# Altium schematic symbol library XSS_IC.SchLib: 440 symbols (part 3 of 4)
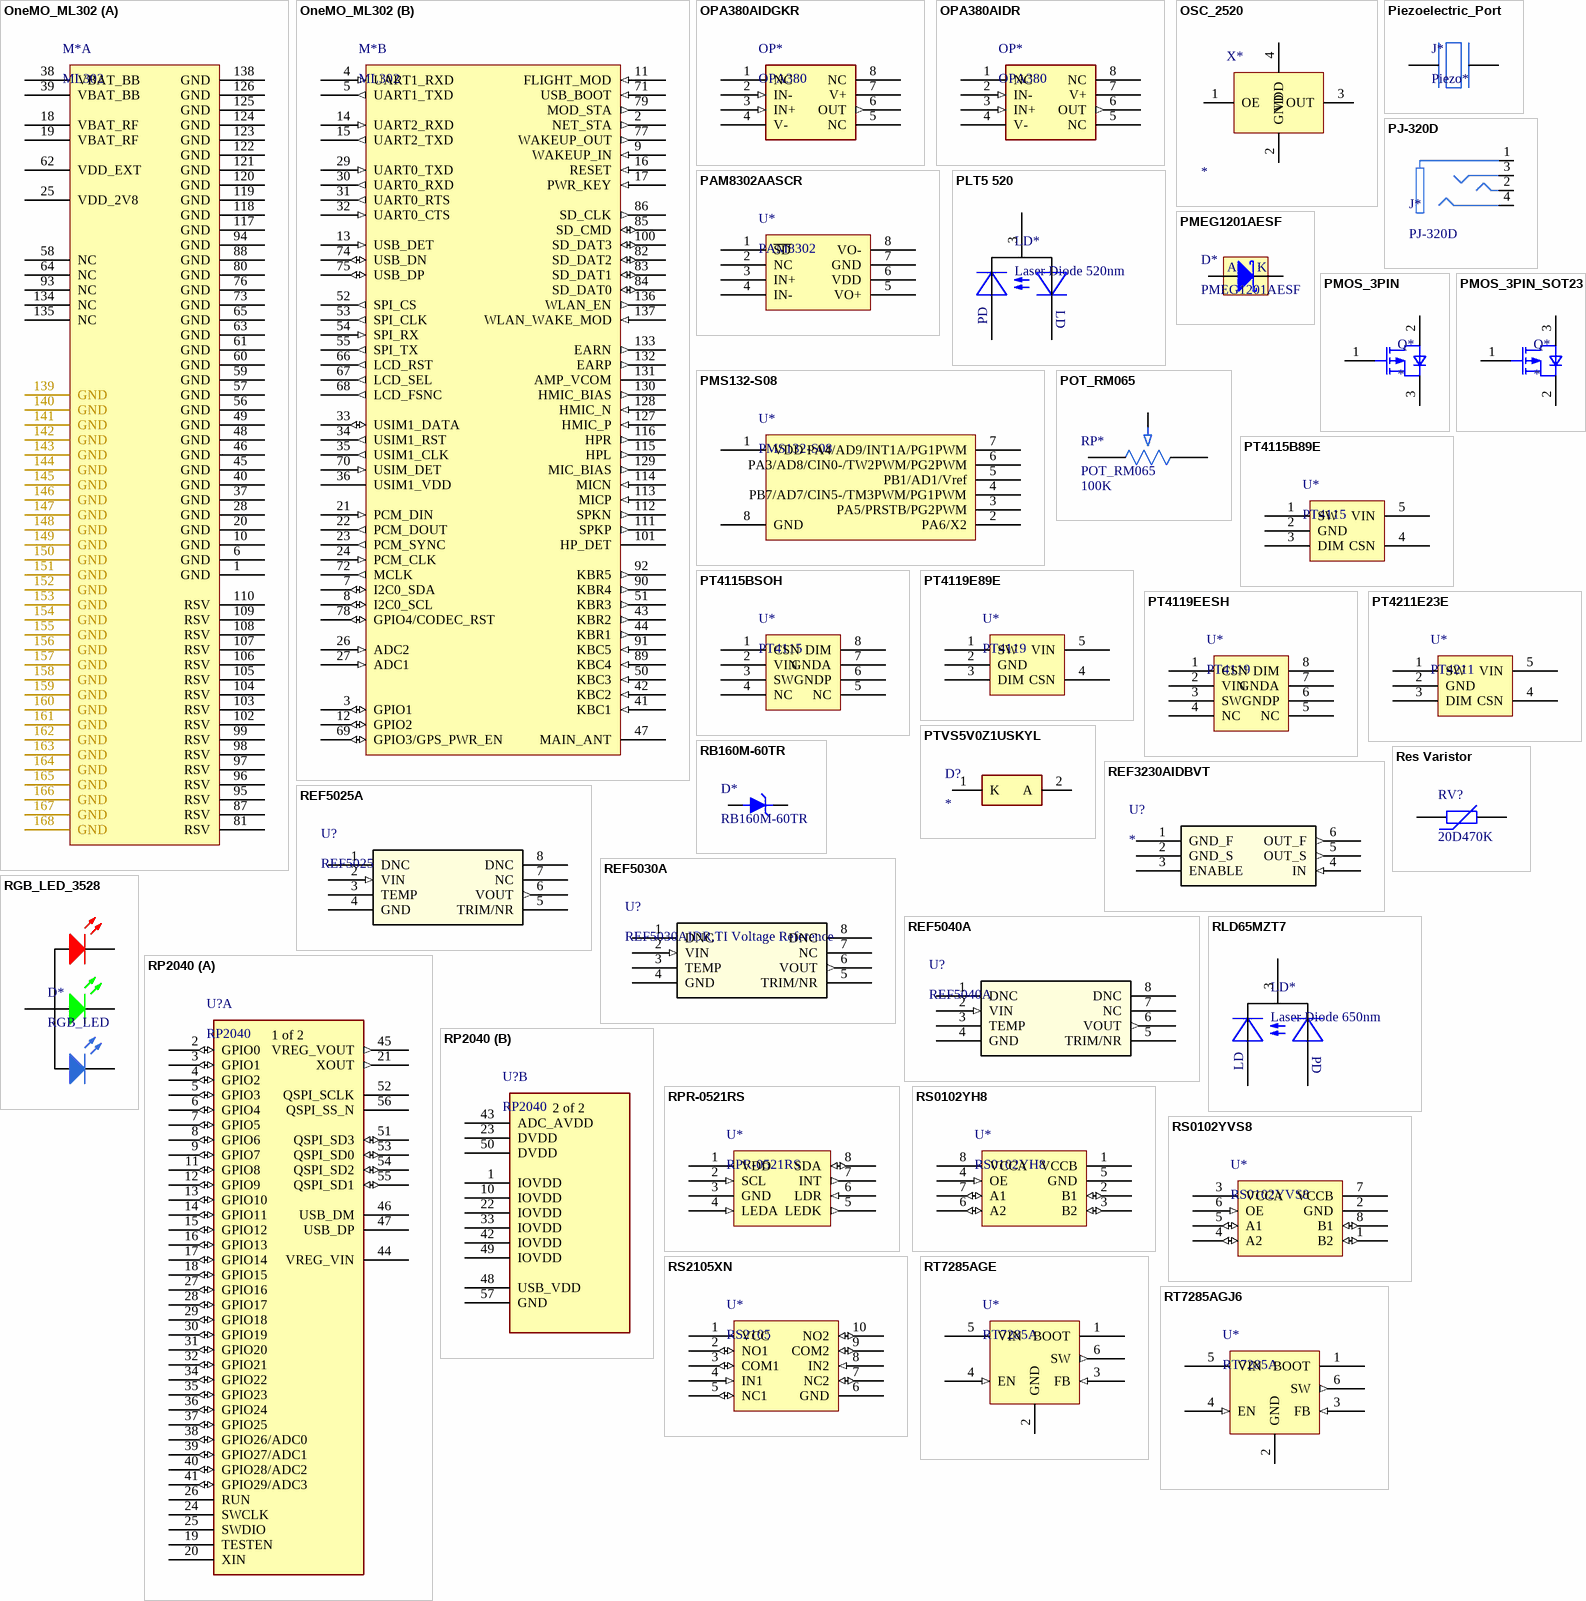
[diagram p15: symbols OneMO_ML302 to RT7285AGJ6]

## OneMO_ML302
designator M*, comment ML302
OneMo in China Mobile, ML302, LTE cat.1 model, LCC+LGA, 32.0x29.0x2.6,- 40℃ ~ 85℃
part A pins: 1 GND (power), 6 GND (power), 10 GND (power), 18 VBAT_RF (power), 19 VBAT_RF (power), 20 GND (power), 25 VDD_2V8 (power), 28 GND (power), 37 GND (power), 38 VBAT_BB (power), 39 VBAT_BB (power), 40 GND (power), 45 GND (power), 46 GND (power), 48 GND (power), 49 GND (power), 56 GND (power), 57 GND (power), 58 NC, 59 GND (power), 60 GND (power), 61 GND (power), 62 VDD_EXT (power), 63 GND (power), 64 NC, 65 GND (power), 73 GND (power), 76 GND (power), 80 GND (power), 81 RSV, 87 RSV, 88 GND (power), 93 NC, 94 GND (power), 95 RSV, 96 RSV, 97 RSV, 98 RSV, 99 RSV, 102 RSV, 103 RSV, 104 RSV, 105 RSV, 106 RSV, 107 RSV, 108 RSV, 109 RSV, 110 RSV, 117 GND (power), 118 GND (power), 119 GND (power), 120 GND (power), 121 GND (power), 122 GND (power), 123 GND (power), 124 GND (power), 125 GND (power), 126 GND (power), 134 NC, 135 NC, 138 GND (power), 139 GND (power), 140 GND (power), 141 GND (power), 142 GND (power), 143 GND (power), 144 GND (power), 145 GND (power), 146 GND (power), 147 GND (power), 148 GND (power), 149 GND (power), 150 GND (power), 151 GND (power), 152 GND (power), 153 GND (power), 154 GND (power), 155 GND (power), 156 GND (power), 157 GND (power), 158 GND (power), 159 GND (power), 160 GND (power), 161 GND (power), 162 GND (power), 163 GND (power), 164 GND (power), 165 GND (power), 166 GND (power), 167 GND (power), 168 GND (power)
part B pins: 2 NET_STA (out), 3 GPIO1 (io), 4 UART1_RXD (in), 5 UART1_TXD (out), 7 I2C0_SDA (io), 8 I2C0_SCL (io), 9 WAKEUP_IN (in), 11 FLIGHT_MOD (in), 12 GPIO2 (io), 13 USB_DET (in), 14 UART2_RXD (in), 15 UART2_TXD (out), 16 RESET (in), 17 PWR_KEY (in), 21 PCM_DIN (in), 22 PCM_DOUT (out), 23 PCM_SYNC (out), 24 PCM_CLK (in), 26 ADC2 (in), 27 ADC1 (in), 29 UART0_TXD (in), 30 UART0_RXD (out), 31 UART0_RTS (out), 32 UART0_CTS (in), 33 USIM1_DATA (io), 34 USIM1_RST (out), 35 USIM1_CLK (out), 36 USIM1_VDD (power), 41 KBC1 (in), 42 KBC2 (in), 43 KBR2 (out), 44 KBR1 (out), 47 MAIN_ANT, 50 KBC3 (in), 51 KBR3 (out), 52 SPI_CS (out), 53 SPI_CLK (out), 54 SPI_RX (in), 55 SPI_TX (out), 66 LCD_RST (out), 67 LCD_SEL (out), 68 LCD_FSNC (out), 69 GPIO3/GPS_PWR_EN (io), 70 USIM_DET (in), 71 USB_BOOT (in), 72 MCLK (out), 74 USB_DN (io), 75 USB_DP (io), 77 WAKEUP_OUT (out), 78 GPIO4/CODEC_RST (io), 79 MOD_STA (out), 82 SD_DAT2 (io), 83 SD_DAT1 (io), 84 SD_DAT0 (io), 85 SD_CMD (io), 86 SD_CLK (out), 89 KBC4 (in), 90 KBR4 (out), 91 KBC5 (in), 92 KBR5 (out), 100 SD_DAT3 (io), 101 HP_DET, 111 SPKP (out), 112 SPKN (out), 113 MICP (in), 114 MICN (in), 115 HPL (out), 116 HPR (out), 127 HMIC_P (in), 128 HMIC_N (in), 129 MIC_BIAS (out), 130 HMIC_BIAS (out), 131 AMP_VCOM (power), 132 EARP (out), 133 EARN (out), 136 WLAN_EN (out), 137 WLAN_WAKE_MOD (in)

## OPA380AIDGKR
designator OP*, comment OPA380
TI, OPA380, Precision, High-Speed Transimpedance Amplifier.BIAS CURRENT: 50pA (max). OFFSET VOLTAGE: 25µV (max). SUPPLY RANGE: 2.7V to 5.5V. VSSOP-8(DGK)
footprint DGK0008A (TI DGK(S-PDSO-G8) package with 5mmx3mm size. Known as VSSOP-8)
pins: 1 NC, 2 IN- (in), 3 IN+ (in), 4 V- (power), 5 NC, 6 OUT (out), 7 V+ (power), 8 NC

## OPA380AIDR
designator OP*, comment OPA380
TI, OPA380, Precision, High-Speed Transimpedance Amplifier.BIAS CURRENT: 50pA (max). OFFSET VOLTAGE: 25µV (max). SUPPLY RANGE: 2.7V to 5.5V. SOIC-8(D)
footprint D0008A (TI D0008A(R-PDSO-G8) package with 6mmx3.85mm size, known as soic-8)
pins: 1 NC, 2 IN- (in), 3 IN+ (in), 4 V- (power), 5 NC, 6 OUT (out), 7 V+ (power), 8 NC

## OSC_2520
designator X*, comment osillator  (value not drawn)
OSC, 2520 package; value: *
footprint OSC-2520
pins: 1 OE, 2 GND, 3 OUT, 4 VDD

## PAM8302AASCR
designator U*, comment PAM8302
PAM8302AASCR, MSOP-8, 2.5W FILTERLESS CLASS-D MONO AUDIO AMPLIFIER
footprint msop-8 (MSOP-8, 5.1mmx3.1mmx1.1mm)
pins: 1 ~{SD}, 2 NC, 3 IN+, 4 IN-, 5 VO+, 6 VDD, 7 GND, 8 VO-

## Piezoelectric_Port
designator J*, comment Piezo*
Port for Piezoelectric Device
footprint Piezo_Port (A Port for Piezoelectric Device)
pins: 1 +, 2 -

## PJ-320D
designator J*
韩国韩荣,音频接插件，3.5mm耳机接插件，PJ-320D; ComponentLink1Description: Website; ComponentLink1URL: http://www.smtswitch.com/cp/9/400.html
footprint PJ-320D (smtswitch, 3.5mm Audio Jack, SMT)
pins: 1 GND, 2 Left, 3 Right, 4 MIC

## PLT5 520
designator LD*, comment Laser Diode 520nm
OSRAM Green Laser Diode in TO56 Package,
footprint TO-56-OSRAM (OSRAM Footprint for Laser Diode with φ5.6 CAN)
pins: 1 LD, 2 PD, 3 Case

## PMEG1201AESF
designator D*
nexperia schottky:PMEG2010AEB,12V, 0.1A low VF(250mV) MEGA Schottky barrier rectifier
footprint SOD962-2
pins: A, K

## PMOS_3PIN
designator Q*
PMOS template with a 3 pin package: like DPAK(TO-252) or D2PAK(TO-263)
footprint D2PAK
footprint D2PAK-L
footprint D2PAK-M
footprint DPAK
footprint DPAK-L
footprint DPAK-M
pins: 1 G, 2 D, 3 S

## PMOS_3PIN_SOT23
designator Q*
PMOS template with a 3 pin package: SOT-23
footprint SOT23-MOS (For si2301/2302 or AO3400/3401.)
pins: 1 G, 2 S, 3 D

## PMS132-S08
designator U*
pins: 1 VDD, 2 PA6/X2, 3 PA5/PRSTB/PG2PWM, 4 PB7/AD7/CIN5-/TM3PWM/PG1PWM, 5 PB1/AD1/Vref, 6 PA3/AD8/CIN0-/TW2PWM/PG2PWM, 7 PA4/AD9/INT1A/PG1PWM, 8 GND

## POT_RM065
designator RP*  value 100K
trim potentiometer with RM065 model
footprint POT_RM065 (trim potentiometer with RM065 model)
footprint POT_RM065_101 (trim potentiometer with RM065 model, 101)
footprint POT_RM065_102 (trim potentiometer with RM065 model, 102)
footprint POT_RM065_103 (trim potentiometer with RM065 model, 103)
footprint POT_RM065_104 (trim potentiometer with RM065 model, 104)
footprint POT_RM065_105 (trim potentiometer with RM065 model, 105)
footprint POT_RM065_201 (trim potentiometer with RM065 model, 201)
footprint POT_RM065_202 (trim potentiometer with RM065 model, 202)
footprint POT_RM065_203 (trim potentiometer with RM065 model, 203)
footprint POT_RM065_204 (trim potentiometer with RM065 model, 204)
footprint POT_RM065_205 (trim potentiometer with RM065 model, 205)
footprint POT_RM065_501 (trim potentiometer with RM065 model, 501)
footprint POT_RM065_502 (trim potentiometer with RM065 model, 502)
footprint POT_RM065_503 (trim potentiometer with RM065 model, 503)
footprint POT_RM065_504 (trim potentiometer with RM065 model, 504)
footprint POT_RM065_505 (trim potentiometer with RM065 model, 505)
pins: 1, 2, 3

## PT4115B89E
designator U*, comment PT4115
30V, 1.2A Step-down High Brightness / LED Driver with 5000:1 Dimming
footprint SOT89-5 (Equel with SOT-89-5)
pins: 1 SW, 2 GND, 3 DIM, 4 CSN, 5 VIN

## PT4115BSOH
designator U*, comment PT4115
30V, 1.2A Step-down High Brightness / LED Driver with 5000:1 Dimming
footprint ESOP8 (TOSHIBA SEMI PSOP8 Package)
pins: 1 CSN, 2 VIN, 3 SW, 4 NC, 5 NC, 6 GNDP, 7 GNDA, 8 DIM

## PT4119E89E
designator U*, comment PT4119
crmicro(PowTech) 30V, 800mA Step-down HB LED Driver
footprint SOT89-5 (Equel with SOT-89-5)
pins: 1 SW, 2 GND, 3 DIM, 4 CSN, 5 VIN

## PT4119EESH
designator U*, comment PT4119
30V, 800mA Step-down High Brightness / LED Driver with 5000:1 Dimming
footprint ESOP8 (TOSHIBA SEMI PSOP8 Package)
pins: 1 CSN, 2 VIN, 3 SW, 4 NC, 5 NC, 6 GNDP, 7 GNDA, 8 DIM

## PT4211E23E
designator U*, comment PT4211
crmicro(PowTech) 30V 350mA Step-down HB LED Driver; ComponentLink1Description: Product Webpage; ComponentLink1URL: https://www.crmicro.com/ProductSolution/psglic/ledic/ledqdic_zlqdcplb/
footprint SOT23-5
pins: 1 SW, 2 GND, 3 DIM, 4 CSN, 5 VIN

## PTVS5V0Z1USKYL
designator D?
TVS Diode (Uni-directional); Manufacturer_Name: Nexperia; Manufacturer_Part_Number: PTVS5V0Z1USKYL; Datasheet Link: https://assets.nexperia.com/documents/data-sheet/PTVS5V0Z1USK.pdf; Height: 0.31mm; Mouser1 Part Number: 771-PTVS5V0Z1USKYL; Mouser1 Price/Stock: https://www.mouser.com/Search/Refine.aspx?Keyword=771-PTVS5V0Z1USKYL
footprint PTVS5V0Z1USKYL
pins: 1 K, 2 A

## RB160M-60TR
designator D*
Rohm, Schottky Diode, RB160M-60TR,60V,  550mV, 1A, SOD-123FL
footprint SOD-123FL (ONSEMI diode)
pins: A, K

## REF3230AIDBVT
designator U?
REF3230AIDBVT,TI very high precision voltage references; Vendor: Texas Instruments; Built_By: EMA_UL_Team; C: Copyright (C) 2015 Accelerated Designs. All rights reserved; Manufacturer_Part_Number: REF3230AIDBVT; RefDes: RefDes; Type: DEV; Value: Value
footprint SOT23-DBV6 (TI SOT-23-6,DBV6)
footprint SOT23-DBV6-L (TI SOT-23-6,DBV6,L)
footprint SOT23-DBV6-M (TI SOT-23-6,DBV6,M)
pins: 1 GND_F (power), 2 GND_S (power), 3 ENABLE, 4 IN (in), 5 OUT_S (out), 6 OUT_F (out)

## REF5025A
designator U?, comment REF5025
REF5025 is Low Noise, Very Low Drift, Precision Series Voltage Reference. Output voltage is 2.5V.; Manufacturer: Texas Instruments; Manufacturer_Part_Number: ref5025_dgk_8; INDUSTRY_STD_PKG_TYPE: MSOP; PIN_COUNT: 8; PACKAGE_DESIGNATOR: DGK; Datasheet_URL: http://www.ti.com/lit/gpn/REF5025; FAMILY_NAME: SERIES VOLTAGE REFERENCE; GENERIC_PART_NUMBER: REF5025; Vendor: Texas Instruments; Value: Value; Type: Type; RefDes: RefDes
footprint SOIC_D8 (TI SOIC-D8)
footprint SOIC_D8-L (TI TI SOIC_D8 L)
footprint SOIC_D8-M (TI SOIC_D8 M)
footprint VSSOP8_DGK8 (TI VSSOP8,DGK8)
footprint VSSOP8_DGK8-L (TI VSSOP8,DGK8,L)
footprint VSSOP8_DGK8-M (TI VSSOP8,DGK8,M)
pins: 1 DNC, 2 VIN (in), 3 TEMP, 4 GND, 5 TRIM/NR, 6 VOUT (out), 7 NC, 8 DNC

## REF5030A
designator U?, comment REF5030AIDR,TI Voltage Reference
TI REF5030AIDR.High Prec Buffered Voltage Reference. Output Voltage is 3.0V; Vendor: Texas Instruments; Built_By: EMA_UL_Team; C: Copyright (C) 2015 Accelerated Designs. All rights reserved; Manufacturer_Part_Number: REF5030AIDR; RefDes: RefDes; Type: DEV; Value: Value
footprint SOIC_D8 (TI SOIC-D8)
footprint SOIC_D8-L (TI TI SOIC_D8 L)
footprint SOIC_D8-M (TI SOIC_D8 M)
footprint VSSOP8_DGK8 (TI VSSOP8,DGK8)
footprint VSSOP8_DGK8-L (TI VSSOP8,DGK8,L)
footprint VSSOP8_DGK8-M (TI VSSOP8,DGK8,M)
pins: 1 DNC, 2 VIN (in), 3 TEMP, 4 GND (power), 5 TRIM/NR, 6 VOUT (out), 7 NC, 8 DNC

## REF5040A
designator U?
REF5040 is Low Noise, Very Low Drift, Precision Series Voltage Reference. Output voltage is 4.096V.; Manufacturer: Texas Instruments; GENERIC_PART_NUMBER: REF5025; Manufacturer_Part_Number: ref5025_dgk_8; INDUSTRY_STD_PKG_TYPE: MSOP; PIN_COUNT: 8; PACKAGE_DESIGNATOR: DGK; Datasheet_URL: http://www.ti.com/lit/gpn/REF5025; FAMILY_NAME: SERIES VOLTAGE REFERENCE; Vendor: Texas Instruments; Value: Value; Type: Type; RefDes: RefDes
footprint SOIC_D8 (TI SOIC-D8)
footprint SOIC_D8-L (TI TI SOIC_D8 L)
footprint SOIC_D8-M (TI SOIC_D8 M)
footprint VSSOP8_DGK8 (TI VSSOP8,DGK8)
footprint VSSOP8_DGK8-L (TI VSSOP8,DGK8,L)
footprint VSSOP8_DGK8-M (TI VSSOP8,DGK8,M)
pins: 1 DNC, 2 VIN (in), 3 TEMP, 4 GND, 5 TRIM/NR, 6 VOUT (out), 7 NC, 8 DNC

## Res Varistor
designator RV?, comment 20D470K
BOURNS MOV-20D470K; Published: 24-Mar-1999; LatestRevisionDate: 29-May-2009; LatestRevisionNote: IPC-7351 Footprint Added.; PackageVersion: Mar-2003; PackageReference: 6-0805; Publisher: Altium Limited; PackageDescription: Chip Resistor 0805 Case Size; Code_IPC: RESC2012; ComponentLink1Description: Rourns MOV-20D series; ComponentLink1URL: https://www.bourns.com/products/circuit-protection/metal-oxide-varistor-smov/product/MOV-20DxxxK
footprint MOV20D
pins: 1, 2

## RGB_LED_3528
designator D*, comment RGB_LED
RGB_LED, 3528, 4pins
footprint RGB_LED_3528 (LED 3528, 4pins)
pins: 1 K_RED, 2 COM, 3 K_GREEN, 4 K_GREEN

## RLD65MZT7
designator LD*, comment Laser Diode 650nm
ROHM 650nm Red Single Mode Laser Diode, 5.6 CAN with 3Pins
footprint TO-56 (Footprint for Laser Diode with φ5.6 CAN)
pins: 1 LD, 2 PD, 3 Case

## RP2040
designator U?
RP2040 is the debut microcontroller from Raspberry Pi. It brings our signature values of high performance, low cost, and ease of use to the microcontroller space. RP2040 have a QFN-56, 7mm x7mm package.; Copyright: Copyright (C) 2023 Ultra Librarian. All rights reserved.; Mfr_Name: Raspberry Pi; Manufacturer_Part_Number: RP2040; RefDes: RefDes; Type: DEV
footprint IC57_RP2040
footprint RP_QFN-56_7x7 (Raspberry Pi, QFN-56, 7mm x 7mm)
part A pins: 2 GPIO0 (io), 3 GPIO1 (io), 4 GPIO2 (io), 5 GPIO3 (io), 6 GPIO4 (io), 7 GPIO5 (io), 8 GPIO6 (io), 9 GPIO7 (io), 11 GPIO8 (io), 12 GPIO9 (io), 13 GPIO10 (io), 14 GPIO11 (io), 15 GPIO12 (io), 16 GPIO13 (io), 17 GPIO14 (io), 18 GPIO15 (io), 19 TESTEN, 20 XIN, 21 XOUT (out), 24 SWCLK, 25 SWDIO, 26 RUN, 27 GPIO16 (io), 28 GPIO17 (io), 29 GPIO18 (io), 30 GPIO19 (io), 31 GPIO20 (io), 32 GPIO21 (io), 34 GPIO22 (io), 35 GPIO23 (io), 36 GPIO24 (io), 37 GPIO25 (io), 38 GPIO26/ADC0 (io), 39 GPIO27/ADC1 (io), 40 GPIO28/ADC2 (io), 41 GPIO29/ADC3 (io), 44 VREG_VIN, 45 VREG_VOUT (out), 46 USB_DM, 47 USB_DP, 51 QSPI_SD3 (io), 52 QSPI_SCLK, 53 QSPI_SD0 (io), 54 QSPI_SD2 (io), 55 QSPI_SD1 (io), 56 QSPI_SS_N
part B pins: 1 IOVDD (power), 10 IOVDD (power), 22 IOVDD (power), 23 DVDD (power), 33 IOVDD (power), 42 IOVDD (power), 43 ADC_AVDD (power), 48 USB_VDD (power), 49 IOVDD (power), 50 DVDD (power), 57 GND
part A text: 1 of 2
part B text: 2 of 2

## RPR-0521RS
designator U*
RPR-0521RS is a module which intergrates optical proximity, digital ambient light sensor IC and inframed LED.
footprint RPR-0521RS-Large (Rohm RPR-0521RS , a optical proximity sensors and ambient light sensors)
footprint RPR-0521RS (Rohm RPR-0521RS , a optical proximity sensors and ambient light sensors)
pins: 1 VDD (power), 2 SCL (in), 3 GND (power), 4 LEDA (in), 5 LEDK (out), 6 LDR (in), 7 INT (out), 8 SDA (io)

## RS0102YH8
designator U*
RUN-IC, RS0102YH8, SOT23-8, 2-Bit Bidirectional Voltage-Level Translator for Open Drain and Push-Pull Application.
footprint SOT-23-8 (SOT-23-8 package)
pins: 1 VCCB (power), 2 B1 (io), 3 B2 (io), 4 OE (in), 5 GND (power), 6 A2 (io), 7 A1 (io), 8 VCCA (power)

## RS0102YVS8
designator U*
RUN-IC, RS0102YVS8, VSSOP-8, 2-Bit Bidirectional Voltage-Level Translator for Open Drain and Push-Pull Application.
footprint VSSOP8_DCU (TI VSSOP(8),DCU,2.30mm x 2.00mm)
pins: 1 B2 (io), 2 GND (power), 3 VCCA (power), 4 A2 (io), 5 A1 (io), 6 OE (in), 7 VCCB (power), 8 B1 (io)

## RS2105XN
designator U*, comment RS2105
RUNIC, Ultra Low ON-Resistance, / Low Voltage, Dual, SPDT Analog Switch, MSOP-10, 1.8~5.5V, 0.3 ohm; Manufacturer_Part_Number: TS5A23157RSER; GENERIC_PART_NUMBER: TS5A23157; Vendor: Texas Instruments; PACKAGE_DESIGNATOR: RSE; PIN_COUNT: 10; FAMILY_NAME: ANALOG SWITCH OR MULTIPLEXER (less than or equal to 5V); INDUSTRY_STD_PKG_TYPE: UQFN; Datasheet_URL: http://www.ti.com/lit/gpn/TS5A23157; Manufacturer: Texas Instruments; Copyright: Copyright (C) 2021 Accelerated Designs. All rights reserved; RefDes: RefDes; Type: DEV
footprint TI_DGS10 (TI, DGS-10P, VSSOP-10(MSOP-10))
pins: 1 VCC (power), 2 NO1 (io), 3 COM1 (io), 4 IN1 (in), 5 NC1 (io), 6 GND (power), 7 NC2 (io), 8 IN2 (in), 9 COM2 (io), 10 NO2 (io)

## RT7285AGE
designator U*, comment RT7285A
Richtek ,1.5A, 18V, 500kHz ACOTTM SynchronousStep-Down Converter
footprint SOT-23-6
pins: 1 BOOT, 2 GND (power), 3 FB (in), 4 EN (in), 5 VIN (power), 6 SW (out)

## RT7285AGJ6
designator U*, comment RT7285A
Richtek ,1.5A, 18V, 500kHz ACOTTM SynchronousStep-Down Converter
footprint TSOT-23-6
pins: 1 BOOT, 2 GND (power), 3 FB (in), 4 EN (in), 5 VIN (power), 6 SW (out)

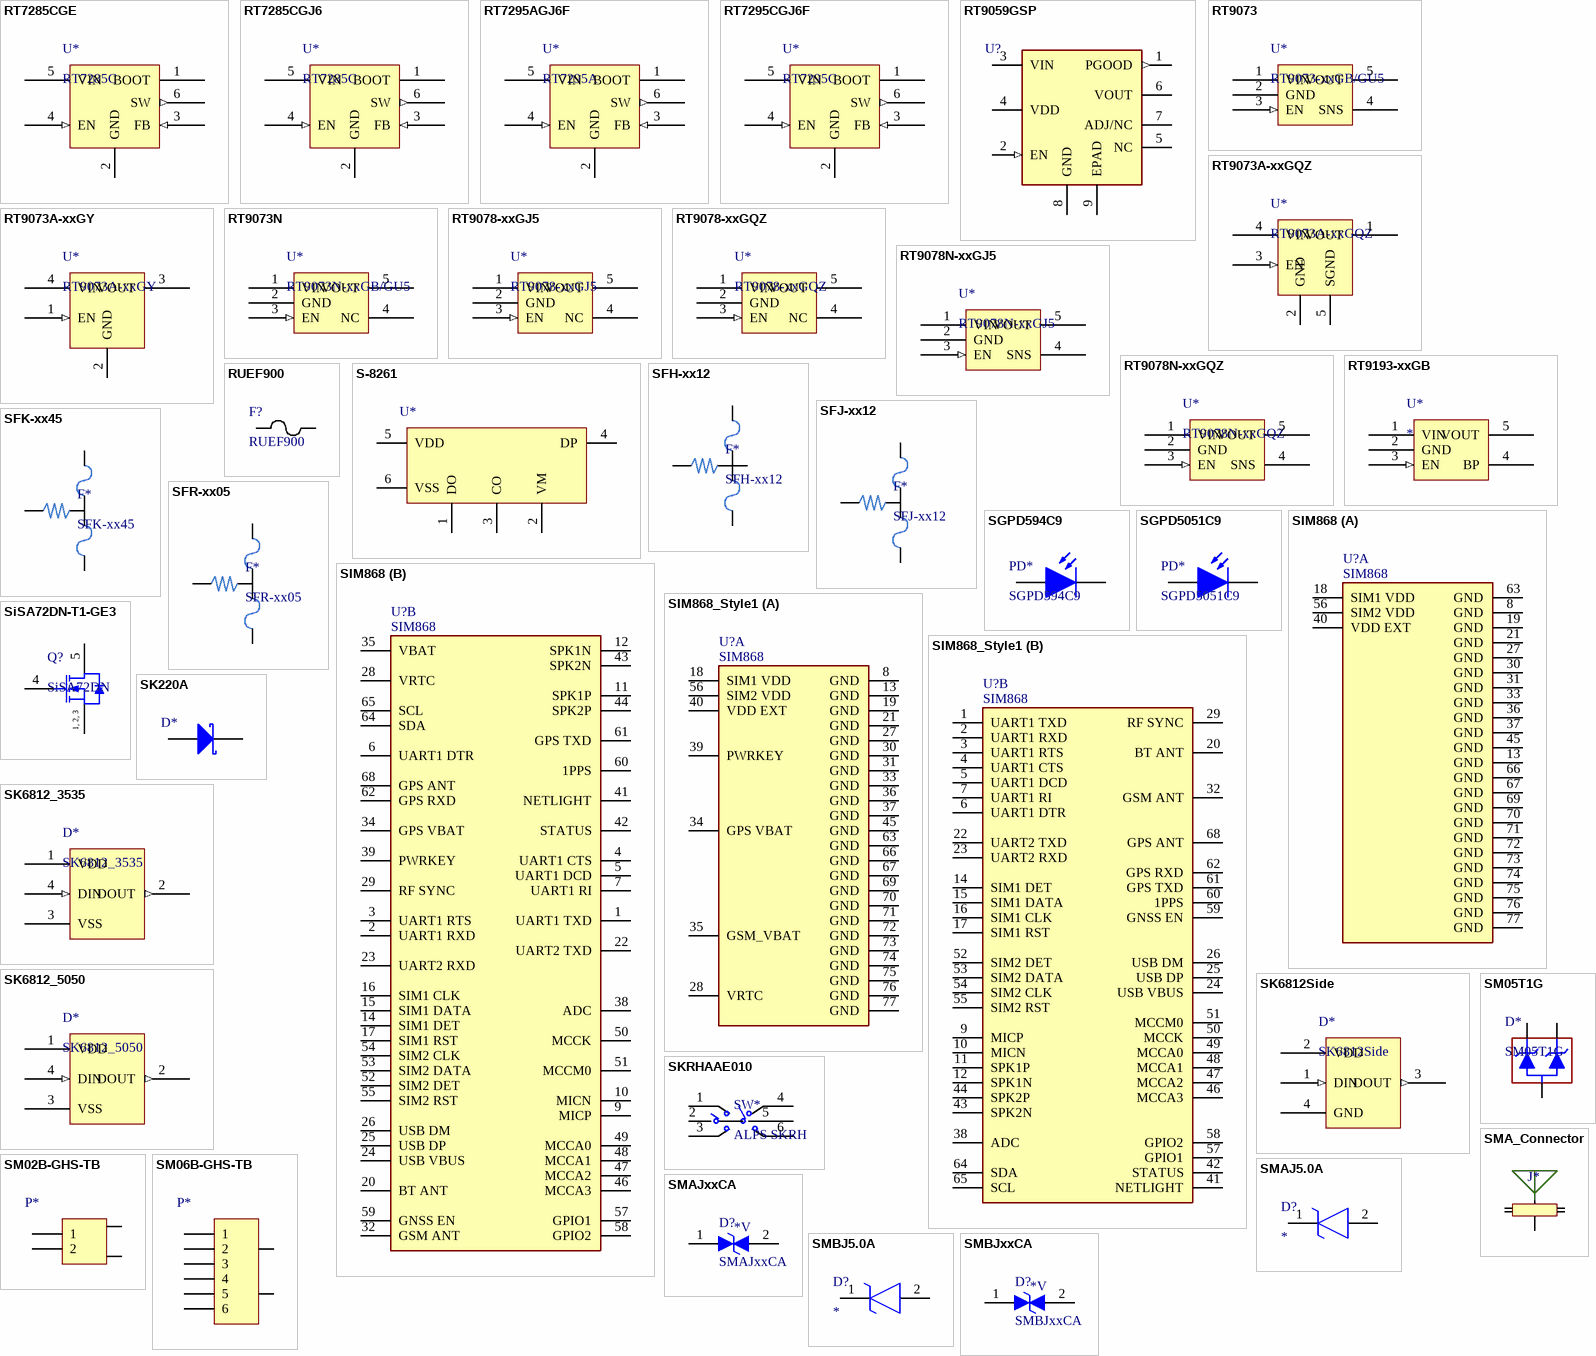
[diagram p8: symbols RT7285CGE to SMBJxxCA]

## RT7285CGE
designator U*, comment RT7285C
Richtek ,1.5A, 18V, 500kHz ACOTTM SynchronousStep-Down Converter
footprint SOT-23-6
pins: 1 BOOT, 2 GND (power), 3 FB (in), 4 EN (in), 5 VIN (power), 6 SW (out)

## RT7285CGJ6
designator U*, comment RT7285C
Richtek ,1.5A, 18V, 500kHz ACOTTM SynchronousStep-Down Converter
footprint TSOT-23-6
pins: 1 BOOT, 2 GND (power), 3 FB (in), 4 EN (in), 5 VIN (power), 6 SW (out)

## RT7295AGJ6F
designator U*, comment RT7295A
3.5A, 18V, 500kHz ACOTTMSynchronous Step-Down Converter
footprint TSOT-23-6
pins: 1 BOOT, 2 GND (power), 3 FB (in), 4 EN (in), 5 VIN (power), 6 SW (out)

## RT7295CGJ6F
designator U*, comment RT7295C
3.5A, 18V, 500kHz ACOTTMSynchronous Step-Down Converter
footprint TSOT-23-6
pins: 1 BOOT, 2 GND (power), 3 FB (in), 4 EN (in), 5 VIN (power), 6 SW (out)

## RT9059GSP
designator U?  (value not drawn)
The RT9059 is a high performance positive voltage regulator designed for use in applications requiring very low input voltage and very low dropout voltage at up to 3A.; Manufacturer_Name: RICHTEK; Datasheet Link: https://www.richtek.com/assets/product_file/RT9059/DS9059-10.pdf; Height: 1.753mm; Manufacturer_Part_Number: RT9059GSP
footprint SOIC127P600X175-9N
pins: 1 PGOOD (out), 2 EN (in), 3 VIN (power), 4 VDD (power), 5 NC, 6 VOUT (power), 7 ADJ/NC, 8 GND (power), 9 EPAD

## RT9073
designator U*, comment RT9073-xxGB/GU5
RICHTEK RT9073. 1μA IQ, 250mA Low-Dropout Linear Regulator. RT9073-xxGB with SOT-23-5; RT9073-xxGU5 th SC-70-5; ComponentLink1Description: Datasheet; ComponentLink1URL: https://www.richtek.com/assets/product_file/RT9193/DS9193-17.pdf; ComponentLink2Description: Website; ComponentLink2URL: https://www.richtek.com/Products/Linear%20Regulator/Single%20Output%20Linear%20Regulator/RT9193?sc_lang=en
footprint SOT-25 (Richtek 3*1.8*1.3)
footprint SC-70-5 (SC-70-5, TI:DCK0005A)
pins: 1 VIN (power), 2 GND (power), 3 EN (in), 4 SNS, 5 VOUT (power)

## RT9073A-xxGQZ
designator U*
RICHTEK RT9073A 1μA IQ, 250mA Low-Dropout Linear Regulator. RT9073A-xxGQZ package is  ZQFN-4L 1x1 (Z-Type); ComponentLink1Description: Datasheet; ComponentLink1URL: https://www.richtek.com/assets/product_file/RT9193/DS9193-17.pdf; ComponentLink2Description: Website; ComponentLink2URL: https://www.richtek.com/Products/Linear%20Regulator/Single%20Output%20Linear%20Regulator/RT9193?sc_lang=en
footprint ZQFN1x1-4 (ZQFN1x1-4, RichTek Package)
pins: 1 VOUT (power), 2 GND (power), 3 EN (in), 4 VIN (power), 5 SGND (power)

## RT9073A-xxGY
designator U*
RICHTEK RT9073A 1μA IQ, 250mA Low-Dropout Linear Regulator. RT9073A-xxGY ackage is  SC-82; ComponentLink1Description: Datasheet; ComponentLink1URL: https://www.richtek.com/assets/product_file/RT9193/DS9193-17.pdf; ComponentLink2Description: Website; ComponentLink2URL: https://www.richtek.com/Products/Linear%20Regulator/Single%20Output%20Linear%20Regulator/RT9193?sc_lang=en
footprint SC-82 (SC-82,SOT343)
pins: 1 EN (in), 2 GND (power), 3 VOUT (power), 4 VIN (power)

## RT9073N
designator U*, comment RT9073N-xxGB/GU5
RICHTEK RT9073. 1μA IQ, 250mA Low-Dropout Linear Regulator. Without SNS pinh SOT-23-5; RT9073NxxGU5 th SC-70-5; ComponentLink1Description: Datasheet; ComponentLink1URL: https://www.richtek.com/assets/product_file/RT9193/DS9193-17.pdf; ComponentLink2Description: Website; ComponentLink2URL: https://www.richtek.com/Products/Linear%20Regulator/Single%20Output%20Linear%20Regulator/RT9193?sc_lang=en
footprint SOT-25 (Richtek 3*1.8*1.3)
footprint SC-70-5 (SC-70-5, TI:DCK0005A)
pins: 1 VIN (power), 2 GND (power), 3 EN (in), 4 NC, 5 VOUT (power)

## RT9078-xxGJ5
designator U*
RICHTEK RT9078 2A IQ, 300mA Low-Dropout Linear Regulator. Without SNS pinh TSOT-23-5; ComponentLink1Description: Datasheet; ComponentLink1URL: https://www.richtek.com/assets/product_file/RT9193/DS9193-17.pdf; ComponentLink2Description: Website; ComponentLink2URL: https://www.richtek.com/Products/Linear%20Regulator/Single%20Output%20Linear%20Regulator/RT9193?sc_lang=en
footprint TSOT-25
pins: 1 VIN (power), 2 GND (power), 3 EN (in), 4 NC, 5 VOUT (power)

## RT9078-xxGQZ
designator U*
RICHTEK RT9078 2A IQ, 300mA Low-Dropout Linear Regulator. Without SNS pins,  ZQFN-4L 1x1; ComponentLink1Description: Datasheet; ComponentLink1URL: https://www.richtek.com/assets/product_file/RT9193/DS9193-17.pdf; ComponentLink2Description: Website; ComponentLink2URL: https://www.richtek.com/Products/Linear%20Regulator/Single%20Output%20Linear%20Regulator/RT9193?sc_lang=en
footprint ZQFN1x1-4 (ZQFN1x1-4, RichTek Package)
pins: 1 VIN (power), 2 GND (power), 3 EN (in), 4 NC, 5 VOUT (power)

## RT9078N-xxGJ5
designator U*
RICHTEK RT9078 2A IQ, 300mA Low-Dropout Linear Regulator. With SNS pin, TSOT-23-5; ComponentLink1Description: Datasheet; ComponentLink1URL: https://www.richtek.com/assets/product_file/RT9193/DS9193-17.pdf; ComponentLink2Description: Website; ComponentLink2URL: https://www.richtek.com/Products/Linear%20Regulator/Single%20Output%20Linear%20Regulator/RT9193?sc_lang=en
footprint TSOT-25
pins: 1 VIN (power), 2 GND (power), 3 EN (in), 4 SNS, 5 VOUT (power)

## RT9078N-xxGQZ
designator U*
RICHTEK RT9078 2A IQ, 300mA Low-Dropout Linear Regulator. Without SNS pins,  ZQFN-4L 1x1; ComponentLink1Description: Datasheet; ComponentLink1URL: https://www.richtek.com/assets/product_file/RT9193/DS9193-17.pdf; ComponentLink2Description: Website; ComponentLink2URL: https://www.richtek.com/Products/Linear%20Regulator/Single%20Output%20Linear%20Regulator/RT9193?sc_lang=en
footprint ZQFN1x1-4 (ZQFN1x1-4, RichTek Package)
pins: 1 VIN (power), 2 GND (power), 3 EN (in), 4 SNS, 5 VOUT (power)

## RT9193-xxGB
designator U*
RICHTEK RT9193-xxGB with SOT-23-5. xx could be 15...50(1.5V...5.0V),1H(1.85V),2H(2.85V),4G(4.75V).; ComponentLink1Description: Datasheet; ComponentLink1URL: https://www.richtek.com/assets/product_file/RT9193/DS9193-17.pdf; ComponentLink2Description: Website; ComponentLink2URL: https://www.richtek.com/Products/Linear%20Regulator/Single%20Output%20Linear%20Regulator/RT9193?sc_lang=en
footprint SOT-25 (Richtek 3*1.8*1.3)
pins: 1 VIN (power), 2 GND (power), 3 EN (in), 4 BP, 5 VOUT (power)

## RUEF900
designator F?
LittleFuse RUEF900, 32V with 9A Hold Current.(Bonrus:MF-R900); Manufacturer_Part_Number: AHEF1000; Vendor: TE Connectivity; Built_By: EMA_UL_Team; Value: 10A,32V; C: Copyright (C) 2015 Accelerated Designs. All rights reserved; Copyright: Copyright (C) 2016 Accelerated Designs. All rights reserved; ComponentLink1Description: LittleFuse RUEF900; ComponentLink1URL: https://www.littelfuse.cn/products/resettable-ptcs/radial-leaded/ruef/ruef900.aspx
footprint FUSE_RUEF900
footprint Fuse_MF-R900 (Bourns MF-R900. stp from Bourns)
pins: 1, 2

## S-8261
designator U*  (value not drawn)
BATTERY PROTECTION IC FOR 1-CELL PACK
footprint SOT23-6L
footprint SOT23-6AN (SOT23, 6-Leads, Body 2.9x1.6mm, Pitch 0.95mm, Lead Span 2.5mm, IPC Medium Density)
footprint SOT23-6AL
pins: 1 DO, 2 VM, 3 CO, 4 DP, 5 VDD, 6 VSS

## SFH-xx12
designator F*
Dexerials SCP, SFH Series. xx can be 04, 08, 12 and 14. SFH-0412 for 1 cell, SFH-0810 for 2 cells, SFH-1212  for 3 cells, SFH-1412 for 4 cells. The voltage is 36V, rated current is 10A/12A
footprint SCP_SFH_5.4x3.2x1.25 (dexerials SCP SFH series, 5.4 x 3.2 x 1.15)
pins: 1, 2, 3, 4

## SFJ-xx12
designator F*
Dexerials SCP, SFJ Series. xx can be 04, 08, 12 and 14. SFJ-0412 for 1 cell, SFJ-0812 for 2 cells, SFJ-1212  for 3 cells, SFJ-1412 for 4 cells. The voltage is 36V, rated current is 12A
footprint SCP_SFJ_4.0x3.0x0.85 (dexerials SCP SFJ series, 4.0 x 3.0 x 0.85 mm)
pins: 1, 3, 4

## SFK-xx45
designator F*
Dexerials SCP, SFK Series. xx can be 12, 14, 20, 30, 40 and 50. SFK-1245 for 3 cell, SFK-1445 for 4 cells, SFK-2045  for 5 cells, SFK-3045 for 6~7 cells, SFK-4045 for 9~10 cells and SFK-5045 for 12~14 cells. The voltage is 80V, rated current is 45A
footprint SCP_SFK_9.5x5.0x2.0mm (dexerials SCP SFK series, 9.5 x 5.0 x 2.0 mm)
pins: 1, 3, 4

## SFR-xx05
designator F*
Dexerials SCP, SFR Series. xx can be 04, 08, 12 and 14. SFR-0405 for 1 cell, SFR-0805 for 2 cells, SFR-1205  for 3 cells, SFR-1405 for 4 cells. The voltage is 36V, rated current is 5A
footprint SCP_SFR_1.8x2.7x0.75mm (dexerials SCP SFR series, 1.8 x 2.7 x 0.75 mm)
pins: 1, 3, 4

## SGPD594C9
designator PD*
Photodiode from SHUGUAN. Which have a round hat. Typical Reverse Light Current is 150uA; ComponentLink1Description: Product Website; ComponentLink1URL: http://www.szsgir.com/Product/7318652622.html
footprint PD-Φ05-Round (Photodiode with 5mm diameter)
pins: 1 A, 2 K

## SGPD5051C9
designator PD*
Photodiode from SHUGUAN. Which have a flat hat. Typical Reverse Light Current is 45uA; ComponentLink1Description: Product Website; ComponentLink1URL: http://www.szsgir.com/Product/2307951922.html
footprint PD-Φ05-Flat (Photodiode with 5mm diameter, which have a flat cover)
pins: 1 A, 2 K

## SIM868
designator U?
Manufacturer: SIMCOM; helpURL: https://upverter.com/upn/revision/44c0e180610bd2e7/; Temperature: -40°C to +85°C; Package: MODULE_SMT_15MM7_17MM6_SIM; Supplier 2: Mouser; Supplier 1: Digi-Key; RoHS: TRUE; Temperature Range Low: -40°C; Lead Free: yes; Temperature Range High: +85°C; Part Number: SIM868
footprint SIMCOM_SIM868_0
part A pins: 8 GND, 13 GND, 18 SIM1 VDD, 19 GND, 21 GND, 27 GND, 30 GND, 31 GND, 33 GND, 36 GND, 37 GND, 40 VDD EXT, 45 GND, 56 SIM2 VDD, 63 GND, 66 GND, 67 GND, 69 GND, 70 GND, 71 GND, 72 GND, 73 GND, 74 GND, 75 GND, 76 GND, 77 GND
part B pins: 1 UART1 TXD, 2 UART1 RXD, 3 UART1 RTS, 4 UART1 CTS, 5 UART1 DCD, 6 UART1 DTR, 7 UART1 RI, 9 MICP, 10 MICN, 11 SPK1P, 12 SPK1N, 14 SIM1 DET, 15 SIM1 DATA, 16 SIM1 CLK, 17 SIM1 RST, 20 BT ANT, 22 UART2 TXD, 23 UART2 RXD, 24 USB VBUS, 25 USB DP, 26 USB DM, 28 VRTC, 29 RF SYNC, 32 GSM ANT, 34 GPS VBAT, 35 VBAT, 38 ADC, 39 PWRKEY, 41 NETLIGHT, 42 STATUS, 43 SPK2N, 44 SPK2P, 46 MCCA3, 47 MCCA2, 48 MCCA1, 49 MCCA0, 50 MCCK, 51 MCCM0, 52 SIM2 DET, 53 SIM2 DATA, 54 SIM2 CLK, 55 SIM2 RST, 57 GPIO1, 58 GPIO2, 59 GNSS EN, 60 1PPS, 61 GPS TXD, 62 GPS RXD, 64 SDA, 65 SCL, 68 GPS ANT

## SIM868_Style1
designator U?, comment SIM868
Manufacturer: SIMCOM; helpURL: https://upverter.com/upn/revision/44c0e180610bd2e7/; Temperature: -40°C to +85°C; Package: MODULE_SMT_15MM7_17MM6_SIM; Supplier 2: Mouser; Supplier 1: Digi-Key; RoHS: TRUE; Temperature Range Low: -40°C; Lead Free: yes; Temperature Range High: +85°C; Part Number: SIM868
footprint SIMCOM_SIM868_0
part A pins: 8 GND (power), 13 GND (power), 18 SIM1 VDD (power), 19 GND (power), 21 GND (power), 27 GND (power), 28 VRTC, 30 GND (power), 31 GND (power), 33 GND (power), 34 GPS VBAT (power), 35 GSM_VBAT (power), 36 GND (power), 37 GND (power), 39 PWRKEY, 40 VDD EXT (power), 45 GND (power), 56 SIM2 VDD (power), 63 GND (power), 66 GND (power), 67 GND (power), 69 GND (power), 70 GND (power), 71 GND (power), 72 GND (power), 73 GND (power), 74 GND (power), 75 GND (power), 76 GND (power), 77 GND (power)
part B pins: 1 UART1 TXD, 2 UART1 RXD, 3 UART1 RTS, 4 UART1 CTS, 5 UART1 DCD, 6 UART1 DTR, 7 UART1 RI, 9 MICP, 10 MICN, 11 SPK1P, 12 SPK1N, 14 SIM1 DET, 15 SIM1 DATA, 16 SIM1 CLK, 17 SIM1 RST, 20 BT ANT, 22 UART2 TXD, 23 UART2 RXD, 24 USB VBUS, 25 USB DP, 26 USB DM, 29 RF SYNC, 32 GSM ANT, 38 ADC, 41 NETLIGHT, 42 STATUS, 43 SPK2N, 44 SPK2P, 46 MCCA3, 47 MCCA2, 48 MCCA1, 49 MCCA0, 50 MCCK, 51 MCCM0, 52 SIM2 DET, 53 SIM2 DATA, 54 SIM2 CLK, 55 SIM2 RST, 57 GPIO1, 58 GPIO2, 59 GNSS EN, 60 1PPS, 61 GPS TXD, 62 GPS RXD, 64 SDA, 65 SCL, 68 GPS ANT

## SiSA72DN-T1-GE3
designator Q?, comment SiSA72DN
Vishay, SiSA72DN-T1-GE3, N-Channel 40 V (D-S) MOSFET, 60A, 35mohm; Manufacturer: NXP Semiconductors; PartNumber: BUK7M33-60EX; Channel Type: N; Ciss [typ] (pF): 655; Coss [typ] (pF): 578; ID [max] (A): 57; Packing: Reel; Qr [typ] (nC): 11; VDS [max] (V): 60; VGSth [typ] (V): 3; PackageVersion: 14-04-25, 04/2014; PackageReference: SOT1210; PackageDescription: 8-Pin Plastic Single-ended Surface Mounted Package, Body 3.3 x 2.6 mm, Pitch 0.65 mm; Supplier 1: Digi-Key; Supplier Part Number 1: 1727-7314-2-ND; Supplier 2: Digi-Key; Supplier Part Number 2: 1727-7314-2-ND; Supplier 3: Element14; Supplier Part Number 3: 2760370; Supplier 4: Newark; Supplier Part Number 4: BUK7M33-60EX; Supplier 5: Mouser; Supplier Part Number 5: BUK7M33-60EX; Mounting Technology: Surface Mount; ComponentLink1Description: Manufacturer URL; ComponentLink1URL: http://www.nxp.com/; ComponentLink2Description: Datasheet; ComponentLink2URL: http://www.nxp.com/documents/data_sheet/PSMN7R5-30MLD.pdf; ComponentLink3Description: Package Specification; ComponentLink3URL: http://www.nxp.com/documents/outline_drawing/sot1210_po.pdf
footprint NXP-SOT1210_N (DPAK, 5-Leads, Body 3.4x2.7mm, Pitch 0.65mm, IPC Medium Density)
footprint NXP-SOT1210_L (DPAK, 5-Leads, Body 3.4x2.7mm, Pitch 0.65mm, IPC High Density)
footprint NXP-SOT1210_M (DPAK, 5-Leads, Body 3.4x2.7mm, Pitch 0.65mm, IPC Low Density)
pins: 1 S "source", 2 S "source", 3 S "source", 4 G "gate", 5 D "mounting base; connected to drain"
text: 1, 2, 3

## SK220A
designator D*  (value not drawn)
SMC,SK220A, 2A, 200V,SMA Package
footprint SMA (SMA diode)
pins: A, K

## SK6812_3535
designator D*
SK6812-3535 is an smart RGB LED with ic inside. 3.5mm*3.5mm
footprint SK6812-3535
pins: 1 VDD (power), 2 DOUT (out), 3 VSS (power), 4 DIN (in)

## SK6812_5050
designator D*
SK6812-5050 is an smart RGB LED with ic inside. 5.0mm*5.0mm
footprint SK6812-5050
pins: 1 VDD (power), 2 DOUT (out), 3 VSS (power), 4 DIN (in)

## SK6812Side
designator D*
SK6812-Side 4.0*2.0*1.5 is an smart RGB LED with ic inside
footprint RGB0402SIDE
pins: 1 DIN (in), 2 VDD (power), 3 DOUT (out), 4 GND (power)

## SKRHAAE010
designator SW*, comment ALPS SKRH
ALPS Multifunction Switch SKRH Serirs. 4 or 5 positions; ComponentLink1Description: Website; ComponentLink1URL: https://tech.alpsalpine.com/prod/c/html/multicontrol/switch/skrh/skrhaae010.html
footprint ALPS_SKRH (ALPS Multi-Switch SKRH Series)
pins: 1 A, 2 CENTER, 3 C, 4 B, 5 COM, 6 D

## SM02B-GHS-TB
designator P*  (value not drawn)
JST: SSM02B-GHS-TB or GH1.25 Horizatal SMD,P2,Gap:1.25mm
footprint SM02B-GHS-TB (JST GH series, 1.25mm, 2P)
footprint CHIHOD_1.25_2P (1.25mm, 2P, CHIHOD)
pins: 1, 2, FS1, FS2

## SM05T1G
designator D*
SM05T1G, ESD Protection Diode Array, 2x tvs diodes, Dual Common Anode, Working Peak Reverse Voltage 5.0V
footprint SOT23-3-Normal
pins: 1, 2, 3

## SM06B-GHS-TB
designator P*  (value not drawn)
JST: SM06B-GHS-TB or GH1.25 Horizatal SMD,P6,Gap:1.25mm
footprint SM06B-GHS-TB (JST GH series, 1.25mm, 6P)
pins: 1, 2, 3, 4, 5, 6, FS1, FS2

## SMA_Connector
designator J*  (value not drawn)
SMA Connector for Antenna
footprint Molex-731000115 (50 Ohms, SMA Right-Angle PCB Jack Receptacle, Brass Body, Nickel Plated,Tray)
footprint Molex-733910071 (50 Ohms, SMA PCB Jack Receptacle, Vertical, with Standoffs, One Piece Per Bag)
pins: 1 GND, 2 GND, 3 GND, 4 GND, A

## SMAJ5.0A
designator D?
TVS Diode (Uni-directional); Manufacturer_Name: Vishay; Manufacturer_Part_Number: SMAJ5.0A-E3/5A; Allied_Number: R1082574; Datasheet Link: http://www.vishay.com/docs/88390/smaj50a.pdf; Height: 2.29mm; Mouser1 Part Number: 625-SMAJ5.0A-E3/5A; Mouser1 Price/Stock: https://www.mouser.com/Search/Refine.aspx?Keyword=625-SMAJ5.0A-E3%2F5A; RS Part Number: 7103484P; RS Price/Stock: http://uk.rs-online.com/web/p/products/7103484P; Allied Price/Stock: https://www.alliedelec.com/vishay-dale-smaj5-0a-e3-5a/R1082574/
footprint DIOM5127X229N
pins: 1 K, 2 A

## SMAJxxCA
designator D?  value *V
400W TVS Diode (Bi-directional). xx Can be 5.0, 6.0, ...12, ...15, ...440. It is Reverse Stand off Voltage.; Manufacturer_Name: Vishay; Manufacturer_Part_Number: SMAJ5.0A-E3/5A; Allied_Number: R1082574; Datasheet Link: http://www.vishay.com/docs/88390/smaj50a.pdf; Height: 2.29mm; Mouser1 Part Number: 625-SMAJ5.0A-E3/5A; Mouser1 Price/Stock: https://www.mouser.com/Search/Refine.aspx?Keyword=625-SMAJ5.0A-E3%2F5A; RS Part Number: 7103484P; RS Price/Stock: http://uk.rs-online.com/web/p/products/7103484P; Allied Price/Stock: https://www.alliedelec.com/vishay-dale-smaj5-0a-e3-5a/R1082574/
footprint SMAJ (SMAJ series tvs diode package)
pins: 1, 2

## SMBJ5.0A
designator D?
TVS Diode (Uni-directional); Manufacturer_Name: Vishay; Manufacturer_Part_Number: SMBJ5.0A; Datasheet Link: http://www.vishay.com/docs/88392/smbj.pdf; Height: 2.44mm; RS Part Number: 0229576; RS Price/Stock: http://uk.rs-online.com/web/p/products/0229576
footprint DIOM5436X244N
pins: 1 K, 2 A

## SMBJxxCA
designator D?  value *V
600W TVS Diode (Bi-directional). xx Can be 5.0, 6.0, ...12, ...15, ...440. It is Reverse Stand off Voltage. SMB Package; Manufacturer_Name: Vishay; Manufacturer_Part_Number: SMAJ5.0A-E3/5A; Allied_Number: R1082574; Datasheet Link: http://www.vishay.com/docs/88390/smaj50a.pdf; Height: 2.29mm; Mouser1 Part Number: 625-SMAJ5.0A-E3/5A; Mouser1 Price/Stock: https://www.mouser.com/Search/Refine.aspx?Keyword=625-SMAJ5.0A-E3%2F5A; RS Part Number: 7103484P; RS Price/Stock: http://uk.rs-online.com/web/p/products/7103484P; Allied Price/Stock: https://www.alliedelec.com/vishay-dale-smaj5-0a-e3-5a/R1082574/
footprint SMBJ (SMBJ series tvs diode package)
pins: 1, 2

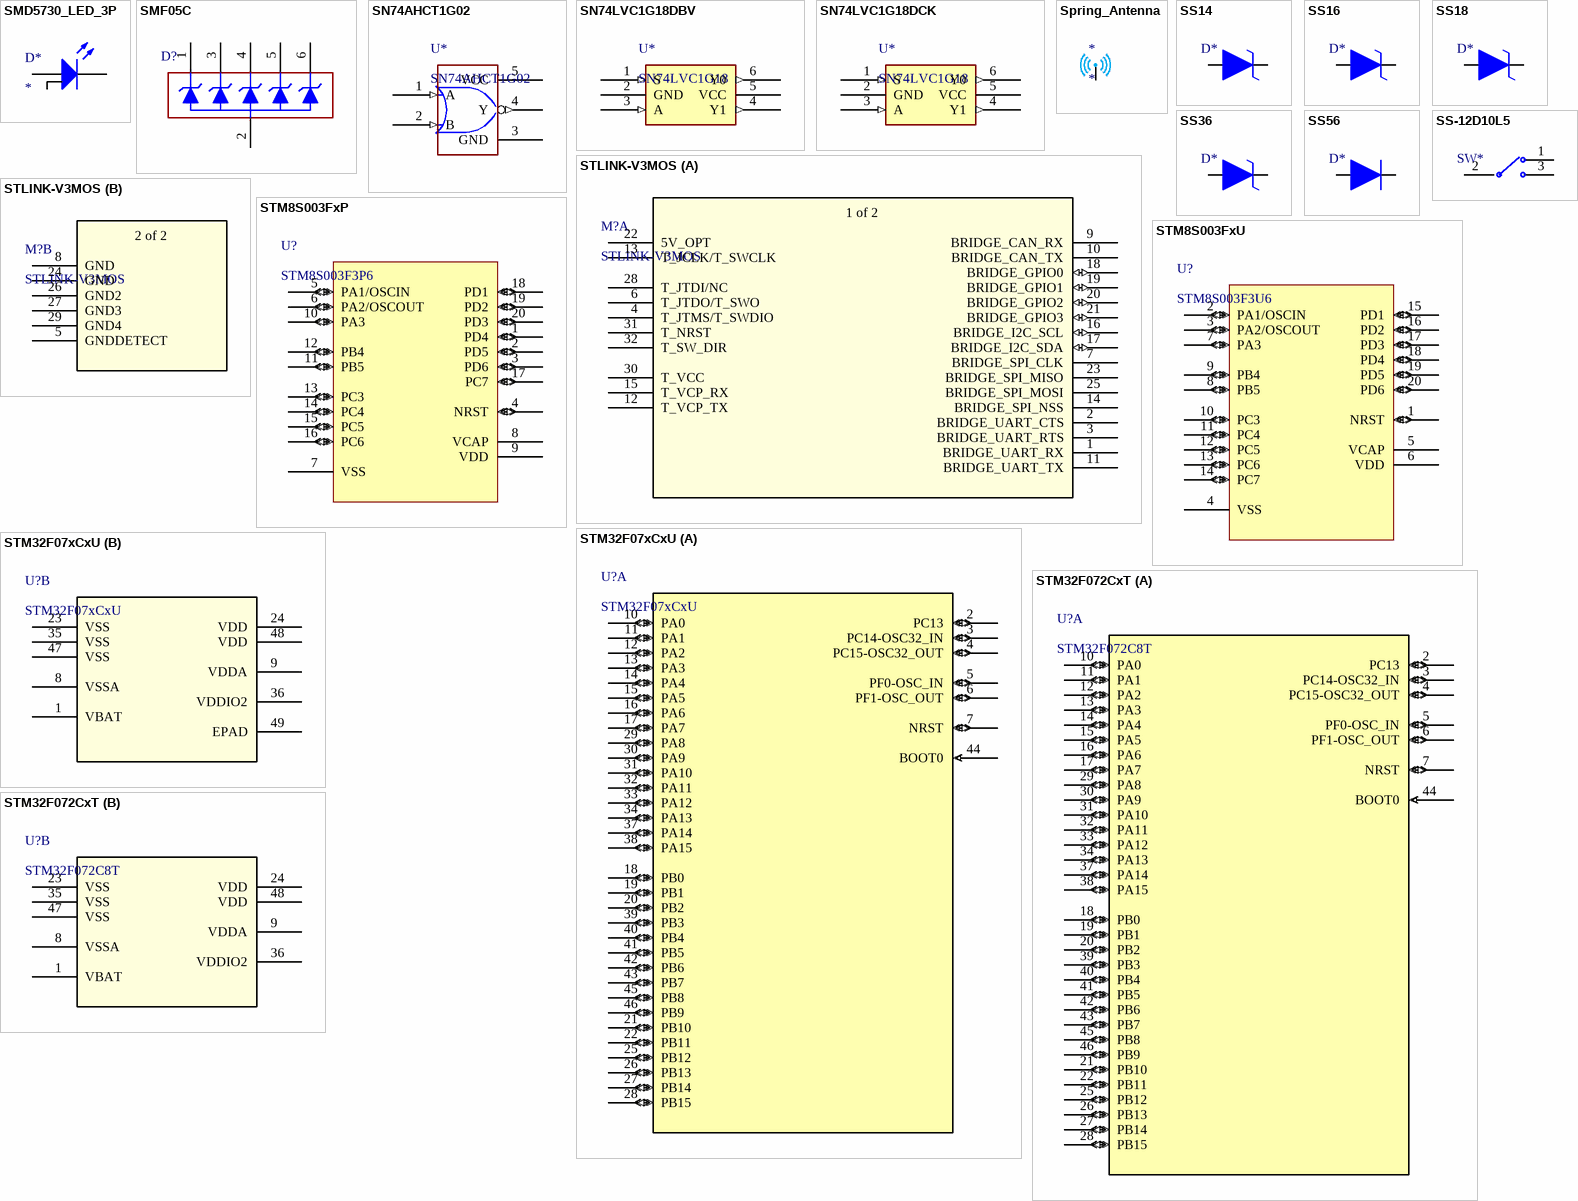
[diagram p9: symbols SMD5730_LED_3P to STM32F072CxT]

## SMD5730_LED_3P
designator D*
SMD5730 LED
footprint SMD5730_LED (SMD LED with 5730 package)
pins: A, K, PAD

## SMF05C
designator D?, comment SMF05CT1G  (value not drawn)
Onsemi,5-TVS Array, SOT-363-6; Manufacturer_Name: ON Semiconductor; Manufacturer_Part_Number: NUP5150MUTBG; Datasheet Link: https://componentsearchengine.com/Datasheets/1/NUP5150MUTBG.pdf; Height: 0.55mm; Mouser Part Number: 863-NUP5150MUTBG; Mouser Price/Stock: https://www.mouser.com/Search/Refine.aspx?Keyword=863-NUP5150MUTBG
footprint SOT-363-6 (SC-88-6 / SC-70-6 / SOT-363-6)
pins: 1 CATHODE_1, 2 ANODE, 3 CATHODE_2, 4 CATHODE_3, 5 CATHODE_4, 6 CATHODE_5

## SN74AHCT1G02
designator U*
TI, SINGLE 2-INPUT POSITIVE-NOR GATE, DBV(SOT-23) package or DCK(SC70) package
footprint DBV5
footprint DCK5
pins: 1 A (in), 2 B (in), 3 GND (power), 4 Y (out), 5 VCC (power)

## SN74LVC1G18DBV
designator U*, comment SN74LVC1G18
TI, SN74LVC1G18 1-of-2 Noninverting Demultiplexer With 3-State Deselected Output, DBV(SOT-23-6)package. Can be replace by 74LVC1G18 or NL7SZ18.
footprint DBV6
pins: 1 S (in), 2 GND (power), 3 A (in), 4 Y1 (out), 5 VCC (power), 6 Y0 (out)

## SN74LVC1G18DCK
designator U*, comment SN74LVC1G18
TI, SN74LVC1G18 1-of-2 Noninverting Demultiplexer With 3-State Deselected Output, DCK(SC-70)package. Can be replace by 74LVC1G18 or NL7SZ18.
footprint DCK6
pins: 1 S (in), 2 GND (power), 3 A (in), 4 Y1 (out), 5 VCC (power), 6 Y0 (out)

## Spring_Antenna
designator *
footprint Spring_Antenna_433_Bended_T1 (A 433MHz spring Antenna with bended pin)
pins: A Antenna

## SS14
designator D*  (value not drawn)
SS14,1A,40V,SMA
footprint SMA (SMA diode)
pins: A, K

## SS16
designator D*  (value not drawn)
SS16,1A,60V,700mV,SMA
footprint SMA (SMA diode)
pins: A, K

## SS18
designator D*  (value not drawn)
SS18,1A,80V,850mV,SMA
footprint SMA (SMA diode)
pins: A, K

## SS36
designator D*  (value not drawn)
SS36,3A,60V,700mV,SMA
footprint SMA (SMA diode)
pins: A, K

## SS56
designator D*  (value not drawn)
SS56,5A,60V,SMA / SR560,5A,60V,SMA / SS54,5A,40V,SMA / SS510,5A,100V,SMA
footprint SMA (SMA diode)
pins: A, K

## SS-12D10L5
designator SW*  (value not drawn)
XKB, SS-12D10L5, SPDT switch
footprint SS-12D10L5 (XHB SPDT Switch, SS-12D10L5, 3-pins)
pins: 1, 2 COM, 3

## STLINK-V3MOS
designator M?
STLINK-V3MODS and STLINK-V3MINI are stand-alone debugging and programming tiny probes for STM32 microcontrollers. These products are designed in a very low form factor and both offer high performance without any compromise to functions. They support the JTAG/SWD interfaces for communication with any STM32 microcontroller located on an application board.; Mfr_Name: STMicroelectronics; RefDes: RefDes; Type: Type
footprint mod_stlink-v3m_mb1467
part A pins: 1 BRIDGE_UART_RX, 2 BRIDGE_UART_CTS, 3 BRIDGE_UART_RTS, 4 T_JTMS/T_SWDIO, 6 T_JTDO/T_SWO, 7 BRIDGE_SPI_CLK, 9 BRIDGE_CAN_RX, 10 BRIDGE_CAN_TX, 11 BRIDGE_UART_TX, 12 T_VCP_TX, 13 T_JCLK/T_SWCLK, 14 BRIDGE_SPI_NSS, 15 T_VCP_RX, 16 BRIDGE_I2C_SCL (io), 17 BRIDGE_I2C_SDA (io), 18 BRIDGE_GPIO0 (io), 19 BRIDGE_GPIO1 (io), 20 BRIDGE_GPIO2 (io), 21 BRIDGE_GPIO3 (io), 22 5V_OPT, 23 BRIDGE_SPI_MISO, 25 BRIDGE_SPI_MOSI, 28 T_JTDI/NC, 30 T_VCC, 31 T_NRST, 32 T_SW_DIR
part B pins: 5 GNDDETECT (power), 8 GND (power), 24 GND (power), 26 GND2 (power), 27 GND3 (power), 29 GND4 (power)
part A text: 1 of 2
part B text: 2 of 2

## STM8S003FxP
designator U?, comment STM8S003F3P6
STM8S Series, TSSOP20 6.5x6.4mm; Manufacturer_Part_Number: stm8s003fxp; Vendor: STMicroelectronics; C: Copyright (C) 2016 Accelerated Designs. All rights reserved; Copyright: Copyright (C) 2016 Accelerated Designs. All rights reserved; RefDes: RefDes; Type: Type; Value: Value
footprint TSSOP20
pins: 1 PD4 (io), 2 PD5 (io), 3 PD6 (io), 4 NRST (io), 5 PA1/OSCIN (io), 6 PA2/OSCOUT (io), 7 VSS (power), 8 VCAP (power), 9 VDD (power), 10 PA3 (io), 11 PB5 (io), 12 PB4 (io), 13 PC3 (io), 14 PC4 (io), 15 PC5 (io), 16 PC6 (io), 17 PC7 (io), 18 PD1 (io), 19 PD2 (io), 20 PD3 (io)

## STM8S003FxU
designator U?, comment STM8S003F3U6
STM8S Series, UFQFPN20 3x3 mm; Manufacturer_Part_Number: stm8s003fxu; Vendor: STMicroelectronics; Built_By: EMA_UL_Team; C: Copyright (C) 2016 Accelerated Designs. All rights reserved; RefDes: RefDes; Type: Type; Value: Value
footprint UFQFPN20_3X3X0P6
pins: 1 NRST (io), 2 PA1/OSCIN (io), 3 PA2/OSCOUT (io), 4 VSS (power), 5 VCAP (power), 6 VDD (power), 7 PA3 (io), 8 PB5 (io), 9 PB4 (io), 10 PC3 (io), 11 PC4 (io), 12 PC5 (io), 13 PC6 (io), 14 PC7 (io), 15 PD1 (io), 16 PD2 (io), 17 PD3 (io), 18 PD4 (io), 19 PD5 (io), 20 PD6 (io)

## STM32F07xCxU
designator U?
STMF072C8U6, and so on. With UFQFPN48; Vendor: STMicroelectronics; C: Copyright (C) 2016 Accelerated Designs. All rights reserved; Copyright: Copyright (C) 2016 Accelerated Designs. All rights reserved; Manufacturer_Part_Number: stm32f07xcxu; RefDes: RefDes; Type: Type; Value: Value
footprint UFQFPN48-7x7mm
part A pins: 2 PC13 (io), 3 PC14-OSC32_IN (io), 4 PC15-OSC32_OUT (io), 5 PF0-OSC_IN (io), 6 PF1-OSC_OUT (io), 7 NRST (io), 10 PA0 (io), 11 PA1 (io), 12 PA2 (io), 13 PA3 (io), 14 PA4 (io), 15 PA5 (io), 16 PA6 (io), 17 PA7 (io), 18 PB0 (io), 19 PB1 (io), 20 PB2 (io), 21 PB10 (io), 22 PB11 (io), 25 PB12 (io), 26 PB13 (io), 27 PB14 (io), 28 PB15 (io), 29 PA8 (io), 30 PA9 (io), 31 PA10 (io), 32 PA11 (io), 33 PA12 (io), 34 PA13 (io), 37 PA14 (io), 38 PA15 (io), 39 PB3 (io), 40 PB4 (io), 41 PB5 (io), 42 PB6 (io), 43 PB7 (io), 44 BOOT0 (in), 45 PB8 (io), 46 PB9 (io)
part B pins: 1 VBAT (power), 8 VSSA (power), 9 VDDA (power), 23 VSS (power), 24 VDD (power), 35 VSS (power), 36 VDDIO2 (power), 47 VSS (power), 48 VDD (power), 49 EPAD

## STM32F072CxT
designator U?, comment STM32F072C8T
STM32F072C8T or  STM32F072CBT; Manufacturer_Part_Number: stm32f072cxt; Vendor: STMicroelectronics; C: Copyright (C) 2016 Accelerated Designs. All rights reserved; Copyright: Copyright (C) 2016 Accelerated Designs. All rights reserved; RefDes: RefDes; Type: Type; Value: Value
footprint LQFP48-7x7mm
part A pins: 2 PC13 (io), 3 PC14-OSC32_IN (io), 4 PC15-OSC32_OUT (io), 5 PF0-OSC_IN (io), 6 PF1-OSC_OUT (io), 7 NRST (io), 10 PA0 (io), 11 PA1 (io), 12 PA2 (io), 13 PA3 (io), 14 PA4 (io), 15 PA5 (io), 16 PA6 (io), 17 PA7 (io), 18 PB0 (io), 19 PB1 (io), 20 PB2 (io), 21 PB10 (io), 22 PB11 (io), 25 PB12 (io), 26 PB13 (io), 27 PB14 (io), 28 PB15 (io), 29 PA8 (io), 30 PA9 (io), 31 PA10 (io), 32 PA11 (io), 33 PA12 (io), 34 PA13 (io), 37 PA14 (io), 38 PA15 (io), 39 PB3 (io), 40 PB4 (io), 41 PB5 (io), 42 PB6 (io), 43 PB7 (io), 44 BOOT0 (in), 45 PB8 (io), 46 PB9 (io)
part B pins: 1 VBAT (power), 8 VSSA (power), 9 VDDA (power), 23 VSS (power), 24 VDD (power), 35 VSS (power), 36 VDDIO2 (power), 47 VSS (power), 48 VDD (power)

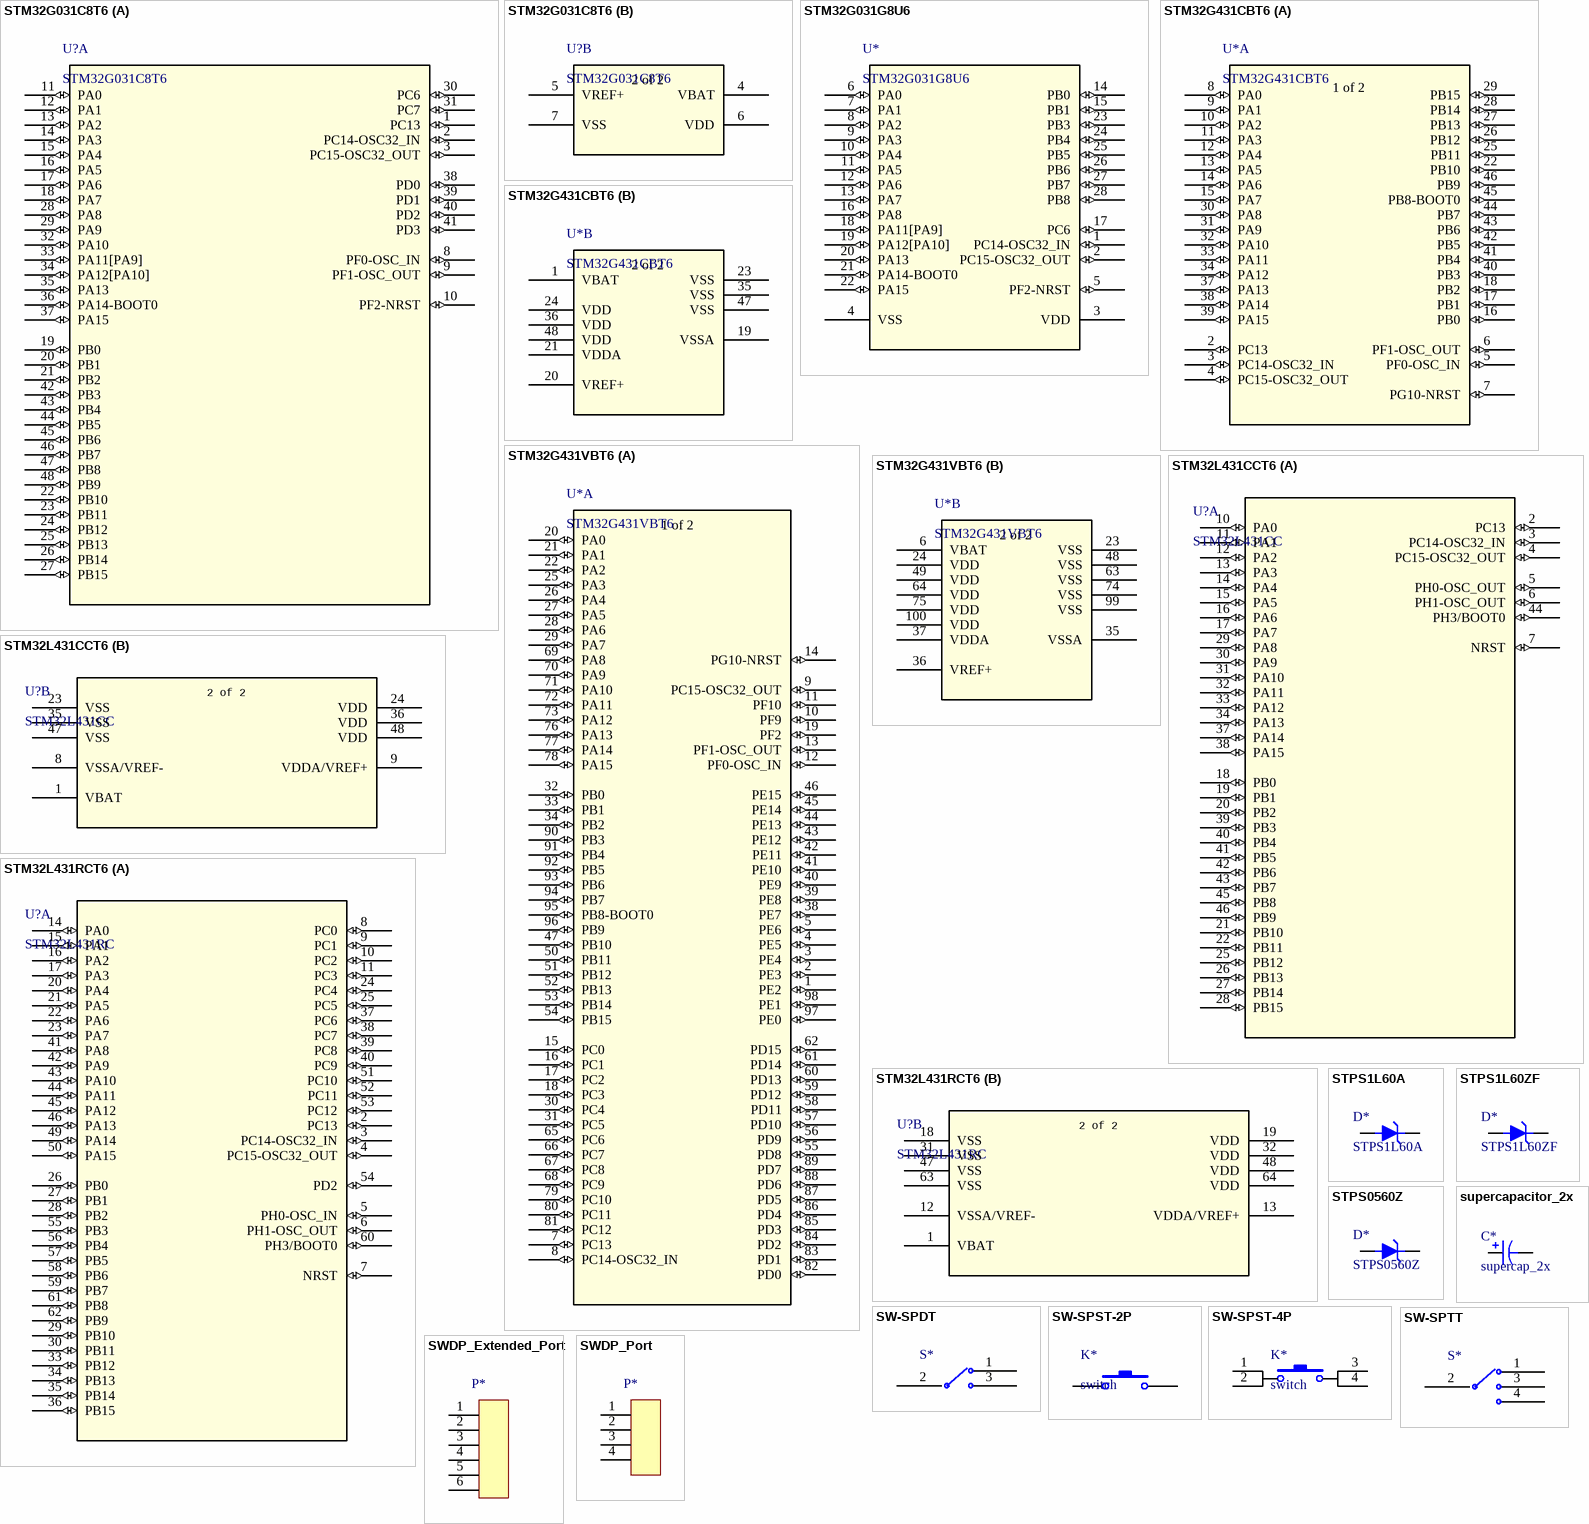
[diagram p10: symbols STM32G031C8T6 to SWDP_Port]

## STM32G031C8T6
designator U?
STM32G031C8, LQFP48 package, / Mainstream Arm Cortex-M0+ MCU with 64 Kbytes of of Flash memory memory, 8 Kbytes RAM, 64 MHz CPU, 2x USART, timers, ADC, comm. I/F, 1.7-3.6V; Vendor: STMicroelectronics; Built_By: EMA_UL_Team; SourceLibrary: Updates_to_database_2020-10-19; Manufacturer_Part_Number: STM32G031C8T6; Copyright: Copyright (C) 2018 Accelerated Designs. All rights reserved; RefDes: RefDes; Type: DEV
footprint LQFP-48
footprint LQFP-48-L
footprint LQFP-48-M
part A pins: 1 PC13 (io), 2 PC14-OSC32_IN (io), 3 PC15-OSC32_OUT (io), 8 PF0-OSC_IN (io), 9 PF1-OSC_OUT (io), 10 PF2-NRST (io), 11 PA0 (io), 12 PA1 (io), 13 PA2 (io), 14 PA3 (io), 15 PA4 (io), 16 PA5 (io), 17 PA6 (io), 18 PA7 (io), 19 PB0 (io), 20 PB1 (io), 21 PB2 (io), 22 PB10 (io), 23 PB11 (io), 24 PB12 (io), 25 PB13 (io), 26 PB14 (io), 27 PB15 (io), 28 PA8 (io), 29 PA9 (io), 30 PC6 (io), 31 PC7 (io), 32 PA10 (io), 33 PA11[PA9] (io), 34 PA12[PA10] (io), 35 PA13 (io), 36 PA14-BOOT0 (io), 37 PA15 (io), 38 PD0 (io), 39 PD1 (io), 40 PD2 (io), 41 PD3 (io), 42 PB3 (io), 43 PB4 (io), 44 PB5 (io), 45 PB6 (io), 46 PB7 (io), 47 PB8 (io), 48 PB9 (io)
part B pins: 4 VBAT (power), 5 VREF+ (power), 6 VDD (power), 7 VSS (power)
part B text: 2 of 2

## STM32G031G8U6
designator U*
STM32G031G8,UFQFPN28 Package, Mainstream Arm Cortex-M0+ MCU with 64 Kbytes of of Flash memory memory, 8 Kbytes RAM, 64 MHz CPU, 2x USART, timers, ADC, comm. I/F, 1.7-3.6V
footprint UFQFPN28-4x4 (UFQFPN28,4mmx4mm)
pins: 1 PC14-OSC32_IN (io), 2 PC15-OSC32_OUT (io), 3 VDD (power), 4 VSS (power), 5 PF2-NRST (io), 6 PA0 (io), 7 PA1 (io), 8 PA2 (io), 9 PA3 (io), 10 PA4 (io), 11 PA5 (io), 12 PA6 (io), 13 PA7 (io), 14 PB0 (io), 15 PB1 (io), 16 PA8 (io), 17 PC6 (io), 18 PA11[PA9] (io), 19 PA12[PA10] (io), 20 PA13 (io), 21 PA14-BOOT0 (io), 22 PA15 (io), 23 PB3 (io), 24 PB4 (io), 25 PB5 (io), 26 PB6 (io), 27 PB7 (io), 28 PB8 (io)

## STM32G431CBT6
designator U*
STM32G431VBT6, ST, LQFP48, Arm® Cortex®-M4 32-bit MCU+FPU, 170 MHz /213 DMIPS, / up to 128 KB Flash, 32 KB SRAM, rich analog, math accelerator; SourceLibrary: Updates_to_database_2020-10-19; Built_By: EMA_UL_Team; Vendor: STMicroelectronics; Copyright: Copyright (C) 2018 Accelerated Designs. All rights reserved; Manufacturer_Part_Number: STM32G431CBT6; RefDes: RefDes; Type: DEV
footprint LQFP48-7x7mm
part A pins: 2 PC13 (io), 3 PC14-OSC32_IN (io), 4 PC15-OSC32_OUT (io), 5 PF0-OSC_IN (io), 6 PF1-OSC_OUT (io), 7 PG10-NRST (io), 8 PA0 (io), 9 PA1 (io), 10 PA2 (io), 11 PA3 (io), 12 PA4 (io), 13 PA5 (io), 14 PA6 (io), 15 PA7 (io), 16 PB0 (io), 17 PB1 (io), 18 PB2 (io), 22 PB10 (io), 25 PB11 (io), 26 PB12 (io), 27 PB13 (io), 28 PB14 (io), 29 PB15 (io), 30 PA8 (io), 31 PA9 (io), 32 PA10 (io), 33 PA11 (io), 34 PA12 (io), 37 PA13 (io), 38 PA14 (io), 39 PA15 (io), 40 PB3 (io), 41 PB4 (io), 42 PB5 (io), 43 PB6 (io), 44 PB7 (io), 45 PB8-BOOT0 (io), 46 PB9 (io)
part B pins: 1 VBAT (power), 19 VSSA (power), 20 VREF+ (power), 21 VDDA (power), 23 VSS (power), 24 VDD (power), 35 VSS (power), 36 VDD (power), 47 VSS (power), 48 VDD (power)
part A text: 1 of 2
part B text: 2 of 2

## STM32G431VBT6
designator U*
STM32G431VBT6, ST, LQFP100, Arm® Cortex®-M4 32-bit MCU+FPU, 170 MHz /213 DMIPS, / up to 128 KB Flash, 32 KB SRAM, rich analog, math accelerator; SourceLibrary: Updates_to_database_2020-10-19; Built_By: EMA_UL_Team; Vendor: STMicroelectronics; Copyright: Copyright (C) 2018 Accelerated Designs. All rights reserved; Manufacturer_Part_Number: STM32G431VBT6; RefDes: RefDes; Type: DEV
footprint LQFP100-14X14MM (STM32 package)
part A pins: 1 PE2 (io), 2 PE3 (io), 3 PE4 (io), 4 PE5 (io), 5 PE6 (io), 7 PC13 (io), 8 PC14-OSC32_IN (io), 9 PC15-OSC32_OUT (io), 10 PF9 (io), 11 PF10 (io), 12 PF0-OSC_IN (io), 13 PF1-OSC_OUT (io), 14 PG10-NRST (io), 15 PC0 (io), 16 PC1 (io), 17 PC2 (io), 18 PC3 (io), 19 PF2 (io), 20 PA0 (io), 21 PA1 (io), 22 PA2 (io), 25 PA3 (io), 26 PA4 (io), 27 PA5 (io), 28 PA6 (io), 29 PA7 (io), 30 PC4 (io), 31 PC5 (io), 32 PB0 (io), 33 PB1 (io), 34 PB2 (io), 38 PE7 (io), 39 PE8 (io), 40 PE9 (io), 41 PE10 (io), 42 PE11 (io), 43 PE12 (io), 44 PE13 (io), 45 PE14 (io), 46 PE15 (io), 47 PB10 (io), 50 PB11 (io), 51 PB12 (io), 52 PB13 (io), 53 PB14 (io), 54 PB15 (io), 55 PD8 (io), 56 PD9 (io), 57 PD10 (io), 58 PD11 (io), 59 PD12 (io), 60 PD13 (io), 61 PD14 (io), 62 PD15 (io), 65 PC6 (io), 66 PC7 (io), 67 PC8 (io), 68 PC9 (io), 69 PA8 (io), 70 PA9 (io), 71 PA10 (io), 72 PA11 (io), 73 PA12 (io), 76 PA13 (io), 77 PA14 (io), 78 PA15 (io), 79 PC10 (io), 80 PC11 (io), 81 PC12 (io), 82 PD0 (io), 83 PD1 (io), 84 PD2 (io), 85 PD3 (io), 86 PD4 (io), 87 PD5 (io), 88 PD6 (io), 89 PD7 (io), 90 PB3 (io), 91 PB4 (io), 92 PB5 (io), 93 PB6 (io), 94 PB7 (io), 95 PB8-BOOT0 (io), 96 PB9 (io), 97 PE0 (io), 98 PE1 (io)
part B pins: 6 VBAT (power), 23 VSS (power), 24 VDD (power), 35 VSSA (power), 36 VREF+ (power), 37 VDDA (power), 48 VSS (power), 49 VDD (power), 63 VSS (power), 64 VDD (power), 74 VSS (power), 75 VDD (power), 99 VSS (power), 100 VDD (power)
part A text: 1 of 2
part B text: 2 of 2

## STM32L431CCT6
designator U?, comment STM32L431CC
STM32L431CCTx, LQFP-48, Ultra-low-power with FPU ARM Cortex-M4 MCU 80 MHz with 256 Kbytes Flash; Manufacturer_Part_Number: stm32l4_lqfp48_t2; Built_By: EMA_Jessica; Vendor: STMicroelectronics; Copyright: Copyright (C) 2016 Accelerated Designs. All rights reserved; Value: Value; Type: Type; RefDes: RefDes
footprint LQFP-48
part A pins: 2 PC13 (io), 3 PC14-OSC32_IN (io), 4 PC15-OSC32_OUT (io), 5 PH0-OSC_OUT (io), 6 PH1-OSC_OUT (io), 7 NRST (io), 10 PA0 (io), 11 PA1 (io), 12 PA2 (io), 13 PA3 (io), 14 PA4 (io), 15 PA5 (io), 16 PA6 (io), 17 PA7 (io), 18 PB0 (io), 19 PB1 (io), 20 PB2 (io), 21 PB10 (io), 22 PB11 (io), 25 PB12 (io), 26 PB13 (io), 27 PB14 (io), 28 PB15 (io), 29 PA8 (io), 30 PA9 (io), 31 PA10 (io), 32 PA11 (io), 33 PA12 (io), 34 PA13 (io), 37 PA14 (io), 38 PA15 (io), 39 PB3 (io), 40 PB4 (io), 41 PB5 (io), 42 PB6 (io), 43 PB7 (io), 44 PH3/BOOT0 (io), 45 PB8 (io), 46 PB9 (io)
part B pins: 1 VBAT (power), 8 VSSA/VREF- (power), 9 VDDA/VREF+ (power), 23 VSS (power), 24 VDD (power), 35 VSS (power), 36 VDD (power), 47 VSS (power), 48 VDD (power)
part B text: 2 of 2

## STM32L431RCT6
designator U?, comment STM32L431RC
STM32L431RCT6/7, LQFP64, / Ultra-low-power with FPU ARM Cortex-M4 MCU 80 MHz with 256 Kbytes Flash; Manufacturer_Part_Number: stm32l4_lqfp64_t7; Built_By: EMA_Jessica; Vendor: STMicroelectronics; Copyright: Copyright (C) 2016 Accelerated Designs. All rights reserved; Value: Value; Type: Type; RefDes: RefDes
footprint LQFP-64
part A pins: 2 PC13 (io), 3 PC14-OSC32_IN (io), 4 PC15-OSC32_OUT (io), 5 PH0-OSC_IN (io), 6 PH1-OSC_OUT (io), 7 NRST (io), 8 PC0 (io), 9 PC1 (io), 10 PC2 (io), 11 PC3 (io), 14 PA0 (io), 15 PA1 (io), 16 PA2 (io), 17 PA3 (io), 20 PA4 (io), 21 PA5 (io), 22 PA6 (io), 23 PA7 (io), 24 PC4 (io), 25 PC5 (io), 26 PB0 (io), 27 PB1 (io), 28 PB2 (io), 29 PB10 (io), 30 PB11 (io), 33 PB12 (io), 34 PB13 (io), 35 PB14 (io), 36 PB15 (io), 37 PC6 (io), 38 PC7 (io), 39 PC8 (io), 40 PC9 (io), 41 PA8 (io), 42 PA9 (io), 43 PA10 (io), 44 PA11 (io), 45 PA12 (io), 46 PA13 (io), 49 PA14 (io), 50 PA15 (io), 51 PC10 (io), 52 PC11 (io), 53 PC12 (io), 54 PD2 (io), 55 PB3 (io), 56 PB4 (io), 57 PB5 (io), 58 PB6 (io), 59 PB7 (io), 60 PH3/BOOT0 (io), 61 PB8 (io), 62 PB9 (io)
part B pins: 1 VBAT (power), 12 VSSA/VREF- (power), 13 VDDA/VREF+ (power), 18 VSS (power), 19 VDD (power), 31 VSS (power), 32 VDD (power), 47 VSS (power), 48 VDD (power), 63 VSS (power), 64 VDD (power)
part B text: 2 of 2

## STPS1L60A
designator D*
ST,STPS1L60A,60V,1A,570mV,SMA
footprint SMA (SMA diode)
pins: A, K

## STPS1L60ZF
designator D*
ST,STPS1L60A,60V,1A,570mV,SOD-123
footprint SOD-123 (vishay diode)
pins: A, K

## STPS0560Z
designator D*
ST,STPS0560Z,60V,0.5A,500mV,SOD-123
footprint SOD-123 (vishay diode)
pins: A, K

## supercapacitor_2x
designator C*, comment supercap_2x
bind 2 supercapacitor togother. 2.7V*2, 3.3uF; Value: 3.3F
footprint Super_Cap_2x
pins: 1, 2

## SW-SPDT
designator S*, comment slide switch  (value not drawn)
slide switch with 3 pin
footprint SS12D10
pins: 1, 2 COM, 3

## SW-SPST-2P
designator K*, comment switch
Pushbutton with two pin, singel push single trigger
footprint SW2_3*4*2 (3mm*4mm*2mm,normal 2pin spst switch)
footprint SW2_5R6_5R5x3R1
footprint SW2_CK_KSS (C&K KSS series SMT, side,3.5mm*7mm*1.7mm)
footprint SW2_3*2*0.6 (3mm*2mm*0.6mm,normal 2pin spst switch)
pins: 1, 2

## SW-SPST-4P
designator K*, comment switch
Pushbutton with 4 pins, singel push single trigger
footprint SW4_6*6*5 (6mm*6mm*5mm, XKB TS-1102 series swich, hight:5mm)
footprint SW4_SMD_6*6*5 (6mm*6mm*5mm,normal 4pin spst switch)
pins: 1, 2, 3, 4

## SW-SPTT
designator S*, comment slide switch  (value not drawn)
footprint ALPS SSSS223600 or SSS2234
pins: 1, 2 COM, 3, 4

## SWDP_Extended_Port
designator P*  (value not drawn)
SWDP Extended Port, include normal SWDP pins / : SWIO,SWCK,GND and Power interfaces. With RX/TX also.
footprint Port_2.54x6 (gap:2.54, 6 pins)
footprint Port_2.0x6 (gap:2.0, 6 pins)
footprint Port_1.5x6 (gap:1.5, 6 pins)
footprint Port_1.27x6 (gap:1.27, 6 pins)
pins: 1 GND, 2 VDD, 3 SWDIO, 4 SWCLK, 5 TX, 6 RX

## SWDP_Port
designator P*  (value not drawn)
SWIO Port, include SWIO,SWCK,GND and Power interfaces.
footprint Port_2.54x4
footprint Port_2.0x4 (gap:2.0, 4 pins)
footprint Port_1.5x4 (gap:1.5, 4 pins)
footprint Port_1.27x4 (gap:1.27, 4 pins)
pins: 1, 2, 3, 4

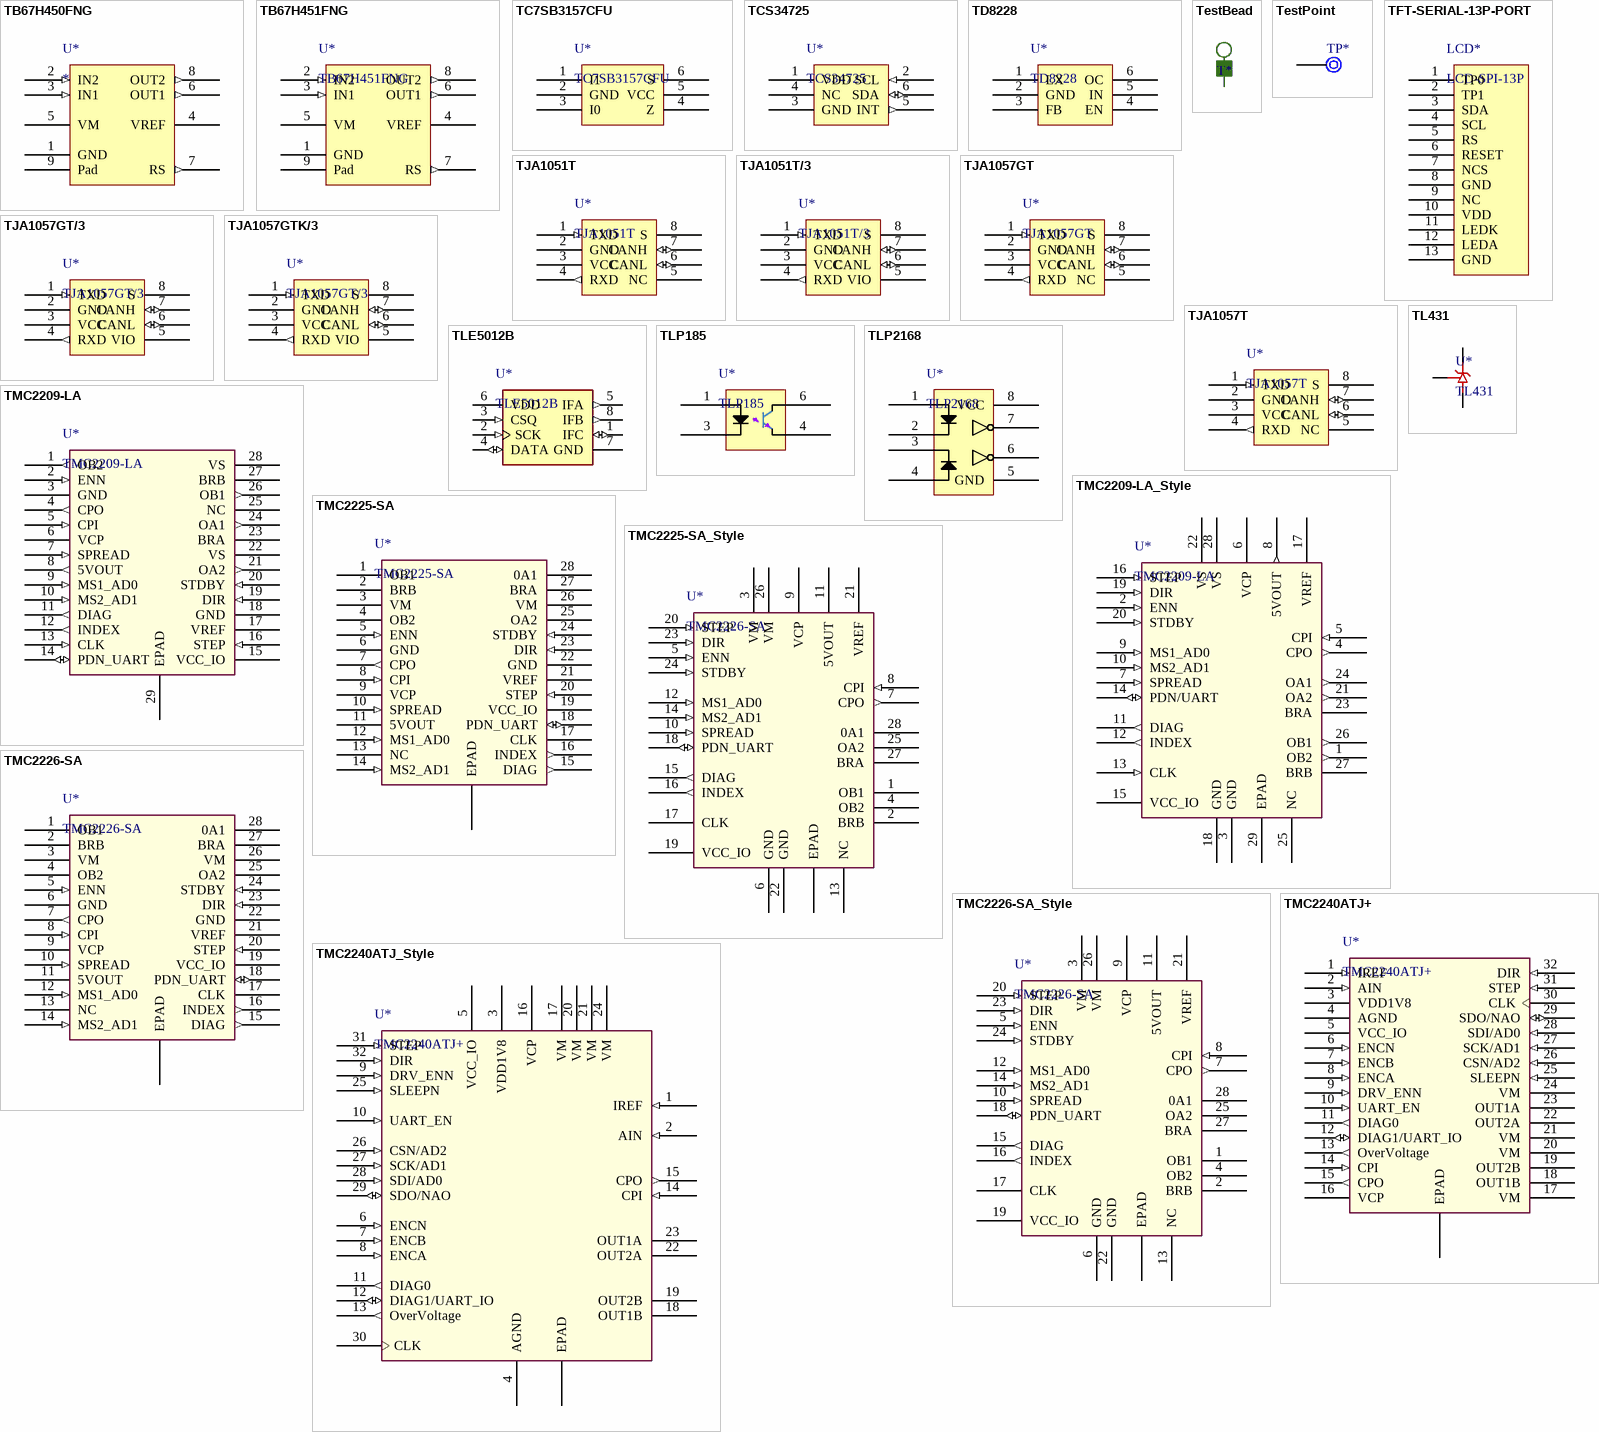
[diagram p11: symbols TB67H450FNG to TMC2240ATJ_Style]

## TB67H450FNG
designator U*
Brush motor driver IC from toshiba semicon. / VM have a range of 4.5~44. / Input is compatible with 3.3 and 5v level. / VREF have a range of 0~4v.
footprint P-HSOP8-0405-1.27-001 (TOSHIBA SEMI PSOP8 Package)
pins: 1 GND (power), 2 IN2 (in), 3 IN1 (in), 4 VREF (power), 5 VM (power), 6 OUT1 (out), 7 RS (out), 8 OUT2 (out), 9 Pad

## TB67H451FNG
designator U*
The new IC can drive brushed DC motors with a wide range of power / supply from 4.5V to 44V. The numerous applications it supports include / mobile devices and devices with 5V USB power supply, and industrial devices, home appliances, / printers, and banking terminals that require a high power drive of up to 3.5A.
footprint P-HSOP8-0405-1.27-001 (TOSHIBA SEMI PSOP8 Package)
pins: 1 GND (power), 2 IN2 (in), 3 IN1 (in), 4 VREF (power), 5 VM (power), 6 OUT1 (out), 7 RS (out), 8 OUT2 (out), 9 Pad

## TC7SB3157CFU
designator U*
toshiba,Single 1-of-2 Multiplexer/DemultiplexerPAckage:SC-88-6 / SC-70-6 / SOT-363-6(Those three packages are equel)
footprint SC70-6 (SC70-5, TI:DCK0006A)
footprint SOT-363-6 (SC-88-6 / SC-70-6 / SOT-363-6)
footprint SC-88-6 (ONSEMI SC-88-6 / SC-70-6 / SOT-363-6)
pins: 1 I1 (power), 2 GND (power), 3 I0 (power), 4 Z (power), 5 VCC (power), 6 S (power)